# Altium schematic symbol library lattice.SCHLIB: 34 symbols (part 2 of 3)
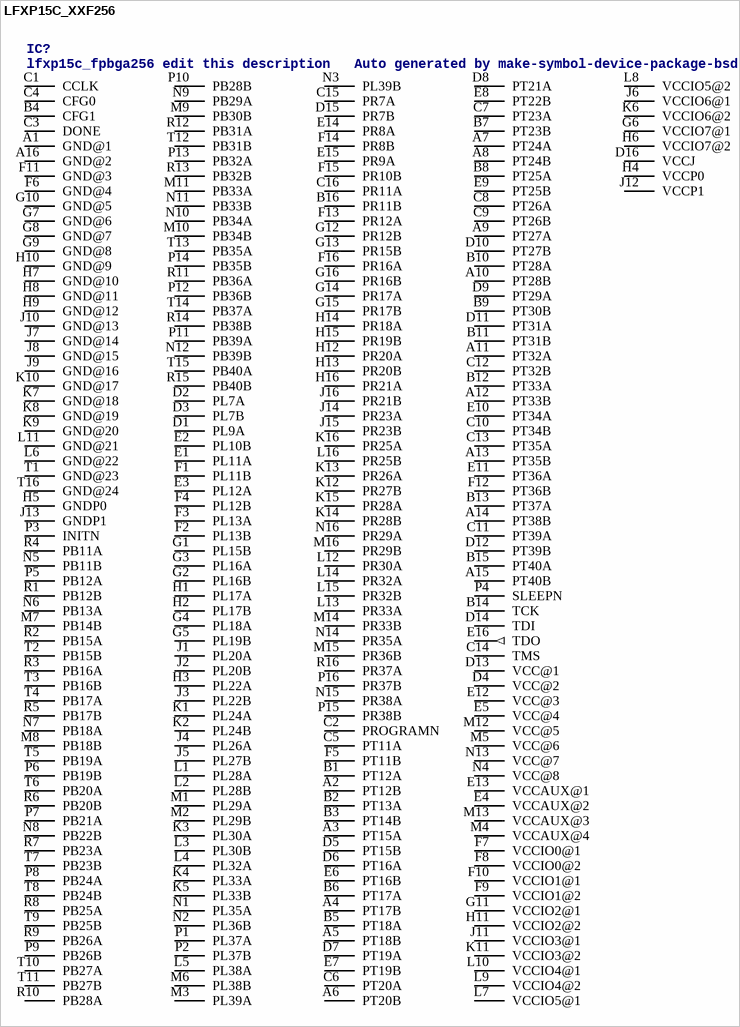
[diagram p23: symbol LFXP15C_XXF256]

## LFXP15C_XXF256
designator IC?, comment lfxp15c_fpbga256 edit this description   Auto generated by make-symbol-device-package-bsdl.ulp Rev. 20 Source: lfxp15c_fpbga256.bsm
OC_FARNELL: unknown; OC_NEWARK: unknown
footprint FPBGA_256
pins: A1 GND@1 (power), A2 PT12B, A3 PT15A, A4 PT17B, A5 PT18B, A6 PT20B, A7 PT24A, A8 PT24B, A9 PT27A, A10 PT28B, A11 PT32A, A12 PT33B, A13 PT35B, A14 PT38B, A15 PT40B, A16 GND@2 (power), B1 PT12A, B2 PT13A, B3 PT14B, B4 CFG1, B5 PT18A, B6 PT17A, B7 PT23B, B8 PT25A, B9 PT30B, B10 PT28A, B11 PT31B, B12 PT33A, B13 PT37A, B14 TCK, B15 PT40A, B16 PR11B, C1 CCLK, C2 PROGRAMN, C3 DONE, C4 CFG0, C5 PT11A, C6 PT20A, C7 PT23A, C8 PT26A, C9 PT26B, C10 PT34B, C11 PT39A, C12 PT32B, C13 PT35A, C14 TMS, C15 PR7A, C16 PR11A, D1 PL9A, D2 PL7A, D3 PL7B, D4 VCC@2 (power), D5 PT15B, D6 PT16A, D7 PT19A, D8 PT21A, D9 PT29A, D10 PT27B, D11 PT31A, D12 PT39B, D13 VCC@1 (power), D14 TDI, D15 PR7B, D16 VCCJ (power), E1 PL11A, E2 PL10B, E3 PL12A, E4 VCCAUX@2 (power), E5 VCC@4 (power), E6 PT16B, E7 PT19B, E8 PT22B, E9 PT25B, E10 PT34A, E11 PT36A, E12 VCC@3 (power), E13 VCCAUX@1 (power), E14 PR8A, E15 PR9A, E16 TDO (out), F1 PL11B, F2 PL13B, F3 PL13A, F4 PL12B, F5 PT11B, F6 GND@4 (power), F7 VCCIO0@1 (power), F8 VCCIO0@2 (power), F9 VCCIO1@2 (power), F10 VCCIO1@1 (power), F11 GND@3 (power), F12 PT36B, F13 PR12A, F14 PR8B, F15 PR10B, F16 PR16A, G1 PL15B, G2 PL16B, G3 PL16A, G4 PL18A, G5 PL19B, G6 VCCIO7@1 (power), G7 GND@6 (power), G8 GND@7 (power), G9 GND@8 (power), G10 GND@5 (power), G11 VCCIO2@1 (power), G12 PR12B, G13 PR15B, G14 PR17A, G15 PR17B, G16 PR16B, H1 PL17A, H2 PL17B, H3 PL22A, H4 VCCP0 (power), H5 GNDP0 (power), H6 VCCIO7@2 (power), H7 GND@10 (power), H8 GND@11 (power), H9 GND@12 (power), H10 GND@9 (power), H11 VCCIO2@2 (power), H12 PR20A, H13 PR20B, H14 PR18A, H15 PR19B, H16 PR21A, J1 PL20A, J2 PL20B, J3 PL22B, J4 PL26A, J5 PL27B, J6 VCCIO6@1 (power), J7 GND@14 (power), J8 GND@15 (power), J9 GND@16 (power), J10 GND@13 (power), J11 VCCIO3@1 (power), J12 VCCP1 (power), J13 GNDP1 (power), J14 PR23A, J15 PR23B, J16 PR21B, K1 PL24A, K2 PL24B, K3 PL30A, K4 PL33A, K5 PL33B, K6 VCCIO6@2 (power), K7 GND@18 (power), K8 GND@19 (power), K9 GND@20 (power), K10 GND@17 (power), K11 VCCIO3@2 (power), K12 PR27B, K13 PR26A, K14 PR28B, K15 PR28A, K16 PR25A, L1 PL28A, L2 PL28B, L3 PL30B, L4 PL32A, L5 PL38A, L6 GND@22 (power), L7 VCCIO5@1 (power), L8 VCCIO5@2 (power), L9 VCCIO4@2 (power), L10 VCCIO4@1 (power), L11 GND@21 (power), L12 PR30A, L13 PR33A, L14 PR32A, L15 PR32B, L16 PR25B, M1 PL29A, M2 PL29B, M3 PL39A, M4 VCCAUX@4 (power), M5 VCC@6 (power), M6 PL38B, M7 PB14B, M8 PB18B, M9 PB30B, M10 PB34B, M11 PB33A, M12 VCC@5 (power), M13 VCCAUX@3 (power), M14 PR33B, M15 PR36B, M16 PR29B, N1 PL35A, N2 PL36B, N3 PL39B, N4 VCC@8 (power), N5 PB11B, N6 PB13A, N7 PB18A, N8 PB22B, N9 PB29A, N10 PB34A, N11 PB33B, N12 PB39B, N13 VCC@7 (power), N14 PR35A, N15 PR38A, N16 PR29A, P1 PL37A, P2 PL37B, P3 INITN, P4 SLEEPN, P5 PB12A, P6 PB19B, P7 PB21A, P8 PB24A, P9 PB26B, P10 PB28B, P11 PB39A, P12 PB36B, P13 PB32A, P14 PB35B, P15 PR38B, P16 PR37B, R1 PB12B, R2 PB15A, R3 PB16A, R4 PB11A, R5 PB17B, R6 PB20B, R7 PB23A, R8 PB25A, R9 PB26A, R10 PB28A, R11 PB36A, R12 PB31A, R13 PB32B, R14 PB38B, R15 PB40B, R16 PR37A, T1 GND@23 (power), T2 PB15B, T3 PB16B, T4 PB17A, T5 PB19A, T6 PB20A, T7 PB23B, T8 PB24B, T9 PB25B, T10 PB27A, T11 PB27B, T12 PB31B, T13 PB35A, T14 PB37A, T15 PB40A, T16 GND@24 (power)

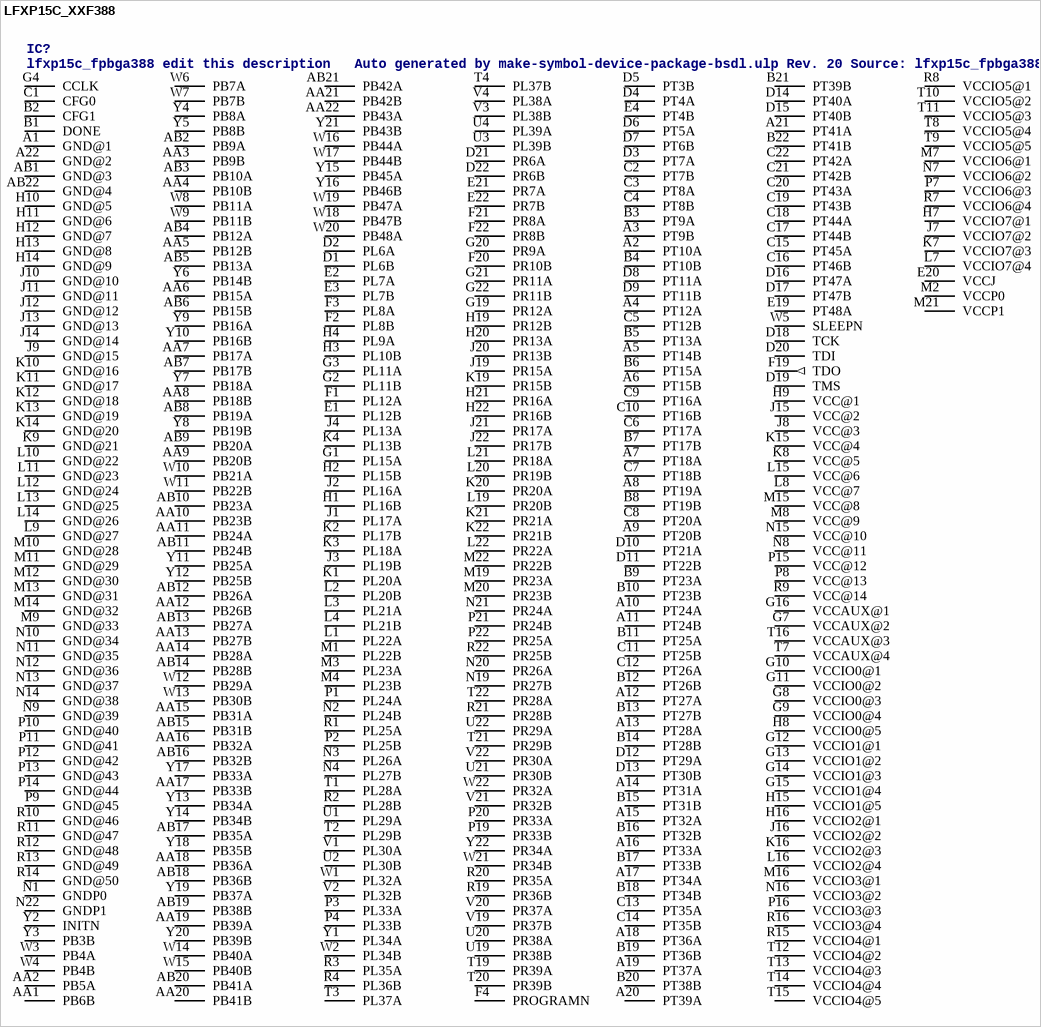
[diagram p13: symbol LFXP15C_XXF388]

## LFXP15C_XXF388
designator IC?, comment lfxp15c_fpbga388 edit this description   Auto generated by make-symbol-device-package-bsdl.ulp Rev. 20 Source: lfxp15c_fpbga388.bsm
OC_FARNELL: unknown; OC_NEWARK: unknown
footprint FPBGA388
pins: A1 GND@1 (power), A2 PT10A, A3 PT9B, A4 PT12A, A5 PT14B, A6 PT15B, A7 PT18A, A8 PT19A, A9 PT20B, A10 PT24A, A11 PT24B, A12 PT27A, A13 PT28A, A14 PT31A, A15 PT32A, A16 PT33A, A17 PT34A, A18 PT36A, A19 PT37A, A20 PT39A, A21 PT41A, A22 GND@2 (power), AA1 PB6B, AA2 PB5A, AA3 PB9B, AA4 PB10B, AA5 PB12B, AA6 PB15A, AA7 PB17A, AA8 PB18B, AA9 PB20B, AA10 PB23B, AA11 PB24A, AA12 PB26B, AA13 PB27B, AA14 PB28A, AA15 PB31A, AA16 PB32A, AA17 PB33B, AA18 PB36A, AA19 PB39A, AA20 PB41B, AA21 PB42B, AA22 PB43A, AB1 GND@3 (power), AB2 PB9A, AB3 PB10A, AB4 PB12A, AB5 PB13A, AB6 PB15B, AB7 PB17B, AB8 PB19A, AB9 PB20A, AB10 PB23A, AB11 PB24B, AB12 PB26A, AB13 PB27A, AB14 PB28B, AB15 PB31B, AB16 PB32B, AB17 PB35A, AB18 PB36B, AB19 PB38B, AB20 PB41A, AB21 PB42A, AB22 GND@4 (power), B1 DONE, B2 CFG1, B3 PT9A, B4 PT10B, B5 PT13A, B6 PT15A, B7 PT17B, B8 PT19B, B9 PT23A, B10 PT23B, B11 PT25A, B12 PT26B, B13 PT27B, B14 PT28B, B15 PT31B, B16 PT32B, B17 PT33B, B18 PT34B, B19 PT36B, B20 PT38B, B21 PT39B, B22 PT41B, C1 CFG0, C2 PT7B, C3 PT8A, C4 PT8B, C5 PT12B, C6 PT17A, C7 PT18B, C8 PT20A, C9 PT16A, C10 PT16B, C11 PT25B, C12 PT26A, C13 PT35A, C14 PT35B, C15 PT45A, C16 PT46B, C17 PT44B, C18 PT44A, C19 PT43B, C20 PT43A, C21 PT42B, C22 PT42A, D1 PL6B, D2 PL6A, D3 PT7A, D4 PT4A, D5 PT3B, D6 PT5A, D7 PT6B, D8 PT11A, D9 PT11B, D10 PT21A, D11 PT22B, D12 PT29A, D13 PT30B, D14 PT40A, D15 PT40B, D16 PT47A, D17 PT47B, D18 TCK, D19 TMS, D20 TDI, D21 PR6A, D22 PR6B, E1 PL12B, E2 PL7A, E3 PL7B, E4 PT4B, E19 PT48A, E20 VCCJ (power), E21 PR7A, E22 PR7B, F1 PL12A, F2 PL8B, F3 PL8A, F4 PROGRAMN, F19 TDO (out), F20 PR10B, F21 PR8A, F22 PR8B, G1 PL15A, G2 PL11B, G3 PL11A, G4 CCLK, G7 VCCAUX@2 (power), G8 VCCIO0@3 (power), G9 VCCIO0@4 (power), G10 VCCIO0@1 (power), G11 VCCIO0@2 (power), G12 VCCIO1@1 (power), G13 VCCIO1@2 (power), G14 VCCIO1@3 (power), G15 VCCIO1@4 (power), G16 VCCAUX@1 (power), G19 PR12A, G20 PR9A, G21 PR11A, G22 PR11B, H1 PL16B, H2 PL15B, H3 PL10B, H4 PL9A, H7 VCCIO7@1 (power), H8 VCCIO0@5 (power), H9 VCC@1 (power), H10 GND@5 (power), H11 GND@6 (power), H12 GND@7 (power), H13 GND@8 (power), H14 GND@9 (power), H15 VCCIO1@5 (power), H16 VCCIO2@1 (power), H19 PR12B, H20 PR13A, H21 PR16A, H22 PR16B, J1 PL17A, J2 PL16A, J3 PL19B, J4 PL13A, J7 VCCIO7@2 (power), J8 VCC@3 (power), J9 GND@15 (power), J10 GND@10 (power), J11 GND@11 (power), J12 GND@12 (power), J13 GND@13 (power), J14 GND@14 (power), J15 VCC@2 (power), J16 VCCIO2@2 (power), J19 PR15A, J20 PR13B, J21 PR17A, J22 PR17B, K1 PL20A, K2 PL17B, K3 PL18A, K4 PL13B, K7 VCCIO7@3 (power), K8 VCC@5 (power), K9 GND@21 (power), K10 GND@16 (power), K11 GND@17 (power), K12 GND@18 (power), K13 GND@19 (power), K14 GND@20 (power), K15 VCC@4 (power), K16 VCCIO2@3 (power), K19 PR15B, K20 PR20A, K21 PR21A, K22 PR21B, L1 PL22A, L2 PL20B, L3 PL21A, L4 PL21B, L7 VCCIO7@4 (power), L8 VCC@7 (power), L9 GND@27 (power), L10 GND@22 (power), L11 GND@23 (power), L12 GND@24 (power), L13 GND@25 (power), L14 GND@26 (power), L15 VCC@6 (power), L16 VCCIO2@4 (power), L19 PR20B, L20 PR19B, L21 PR18A, L22 PR22A, M1 PL22B, M2 VCCP0 (power), M3 PL23A, M4 PL23B, M7 VCCIO6@1 (power), M8 VCC@9 (power), M9 GND@33 (power), M10 GND@28 (power), M11 GND@29 (power), M12 GND@30 (power), M13 GND@31 (power), M14 GND@32 (power), M15 VCC@8 (power), M16 VCCIO3@1 (power), M19 PR23A, M20 PR23B, M21 VCCP1 (power), M22 PR22B, N1 GNDP0 (power), N2 PL24B, N3 PL26A, N4 PL27B, N7 VCCIO6@2 (power), N8 VCC@11 (power), N9 GND@39 (power), N10 GND@34 (power), N11 GND@35 (power), N12 GND@36 (power), N13 GND@37 (power), N14 GND@38 (power), N15 VCC@10 (power), N16 VCCIO3@2 (power), N19 PR27B, N20 PR26A, N21 PR24A, N22 GNDP1 (power), P1 PL24A, P2 PL25B, P3 PL33A, P4 PL33B, P7 VCCIO6@3 (power), P8 VCC@13 (power), P9 GND@45 (power), P10 GND@40 (power), P11 GND@41 (power), P12 GND@42 (power), P13 GND@43 (power), P14 GND@44 (power), P15 VCC@12 (power), P16 VCCIO3@3 (power), P19 PR33B, P20 PR33A, P21 PR24B, P22 PR25A, R1 PL25A, R2 PL28B, R3 PL35A, R4 PL36B, R7 VCCIO6@4 (power), R8 VCCIO5@1 (power), R9 VCC@14 (power), R10 GND@46 (power), R11 GND@47 (power), R12 GND@48 (power), R13 GND@49 (power), R14 GND@50 (power), R15 VCCIO4@1 (power), R16 VCCIO3@4 (power), R19 PR36B, R20 PR35A, R21 PR28B, R22 PR25B, T1 PL28A, T2 PL29B, T3 PL37A, T4 PL37B, T7 VCCAUX@4 (power), T8 VCCIO5@4 (power), T9 VCCIO5@5 (power), T10 VCCIO5@2 (power), T11 VCCIO5@3 (power), T12 VCCIO4@2 (power), T13 VCCIO4@3 (power), T14 VCCIO4@4 (power), T15 VCCIO4@5 (power), T16 VCCAUX@3 (power), T19 PR39A, T20 PR39B, T21 PR29B, T22 PR28A, U1 PL29A, U2 PL30B, U3 PL39B, U4 PL39A, U19 PR38B, U20 PR38A, U21 PR30B, U22 PR29A, V1 PL30A, V2 PL32B, V3 PL38B, V4 PL38A, V19 PR37B, V20 PR37A, V21 PR32B, V22 PR30A, W1 PL32A, W2 PL34B, W3 PB4A, W4 PB4B, W5 SLEEPN, W6 PB7A, W7 PB7B, W8 PB11A, W9 PB11B, W10 PB21A, W11 PB22B, W12 PB29A, W13 PB30B, W14 PB40A, W15 PB40B, W16 PB44A, W17 PB44B, W18 PB47B, W19 PB47A, W20 PB48A, W21 PR34B, W22 PR32A, Y1 PL34A, Y2 INITN, Y3 PB3B, Y4 PB8A, Y5 PB8B, Y6 PB14B, Y7 PB18A, Y8 PB19B, Y9 PB16A, Y10 PB16B, Y11 PB25A, Y12 PB25B, Y13 PB34A, Y14 PB34B, Y15 PB45A, Y16 PB46B, Y17 PB33A, Y18 PB35B, Y19 PB37A, Y20 PB39B, Y21 PB43B, Y22 PR34A

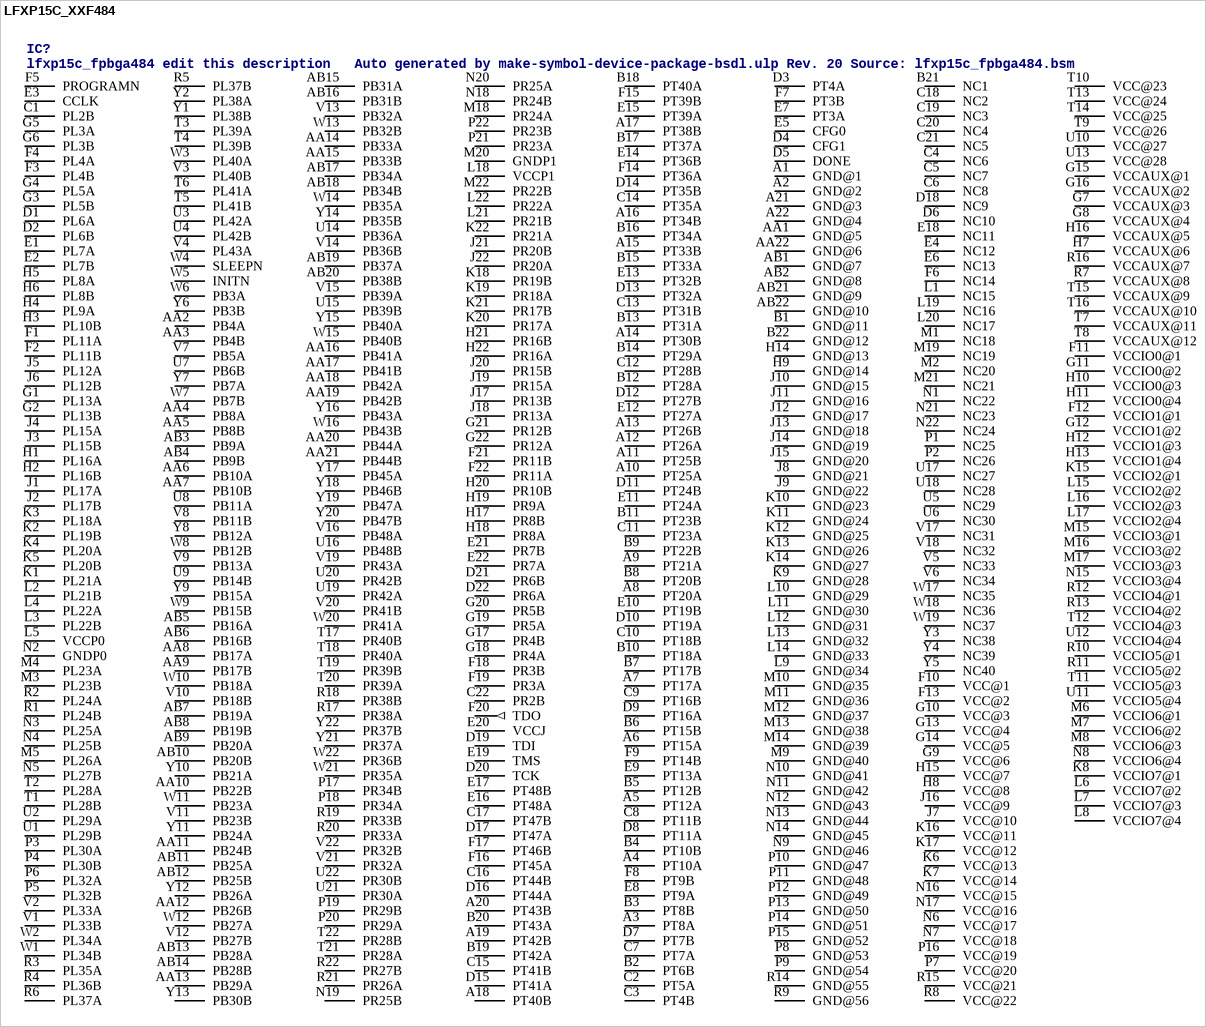
[diagram p14: symbol LFXP15C_XXF484]

## LFXP15C_XXF484
designator IC?, comment lfxp15c_fpbga484 edit this description   Auto generated by make-symbol-device-package-bsdl.ulp Rev. 20 Source: lfxp15c_fpbga484.bsm
OC_FARNELL: unknown; OC_NEWARK: unknown
footprint FPBGA_484
pins: A1 GND@1 (power), A2 GND@2 (power), A3 PT8A, A4 PT10A, A5 PT12A, A6 PT15A, A7 PT17A, A8 PT20A, A9 PT21A, A10 PT25A, A11 PT25B, A12 PT26A, A13 PT26B, A14 PT30B, A15 PT33B, A16 PT34B, A17 PT38B, A18 PT40B, A19 PT42B, A20 PT43B, A21 GND@3 (power), A22 GND@4 (power), AA1 GND@5 (power), AA2 PB4A, AA3 PB4B, AA4 PB8A, AA5 PB8B, AA6 PB10A, AA7 PB10B, AA8 PB17A, AA9 PB17B, AA10 PB22B, AA11 PB24B, AA12 PB26B, AA13 PB29A, AA14 PB33A, AA15 PB33B, AA16 PB41A, AA17 PB41B, AA18 PB42A, AA19 PB42B, AA20 PB44A, AA21 PB44B, AA22 GND@6 (power), AB1 GND@7 (power), AB2 GND@8 (power), AB3 PB9A, AB4 PB9B, AB5 PB16A, AB6 PB16B, AB7 PB19A, AB8 PB19B, AB9 PB20A, AB10 PB20B, AB11 PB25A, AB12 PB25B, AB13 PB28A, AB14 PB28B, AB15 PB31A, AB16 PB31B, AB17 PB34A, AB18 PB34B, AB19 PB37A, AB20 PB38B, AB21 GND@9 (power), AB22 GND@10 (power), B1 GND@11 (power), B2 PT6B, B3 PT8B, B4 PT10B, B5 PT12B, B6 PT15B, B7 PT17B, B8 PT20B, B9 PT22B, B10 PT18A, B11 PT23B, B12 PT28A, B13 PT31A, B14 PT29A, B15 PT33A, B16 PT34A, B17 PT37A, B18 PT40A, B19 PT42A, B20 PT43A, B21 NC1, B22 GND@12 (power), C1 PL2B, C2 PT5A, C3 PT4B, C4 NC6, C5 NC7, C6 NC8, C7 PT7A, C8 PT11B, C9 PT16B, C10 PT18B, C11 PT23A, C12 PT28B, C13 PT31B, C14 PT35A, C15 PT41B, C16 PT44B, C17 PT47B, C18 NC2, C19 NC3, C20 NC4, C21 NC5, C22 PR2B, D1 PL6A, D2 PL6B, D3 PT4A, D4 CFG1, D5 DONE, D6 NC10, D7 PT7B, D8 PT11A, D9 PT16A, D10 PT19A, D11 PT24B, D12 PT27B, D13 PT32A, D14 PT35B, D15 PT41A, D16 PT44A, D17 PT47A, D18 NC9, D19 TDI, D20 TCK, D21 PR6B, D22 PR6A, E1 PL7A, E2 PL7B, E3 CCLK, E4 NC12, E5 CFG0, E6 NC13, E7 PT3A, E8 PT9A, E9 PT13A, E10 PT19B, E11 PT24A, E12 PT27A, E13 PT32B, E14 PT36B, E15 PT39A, E16 PT48A, E17 PT48B, E18 NC11, E19 TMS, E20 VCCJ (power), E21 PR7B, E22 PR7A, F1 PL11A, F2 PL11B, F3 PL4B, F4 PL4A, F5 PROGRAMN, F6 NC14, F7 PT3B, F8 PT9B, F9 PT14B, F10 VCC@1 (power), F11 VCCIO0@1 (power), F12 VCCIO1@1 (power), F13 VCC@2 (power), F14 PT36A, F15 PT39B, F16 PT45A, F17 PT46B, F18 PR3B, F19 PR3A, F20 TDO (out), F21 PR11B, F22 PR11A, G1 PL13A, G2 PL13B, G3 PL5B, G4 PL5A, G5 PL3A, G6 PL3B, G7 VCCAUX@3 (power), G8 VCCAUX@4 (power), G9 VCC@6 (power), G10 VCC@3 (power), G11 VCCIO0@2 (power), G12 VCCIO1@2 (power), G13 VCC@4 (power), G14 VCC@5 (power), G15 VCCAUX@1 (power), G16 VCCAUX@2 (power), G17 PR4B, G18 PR4A, G19 PR5A, G20 PR5B, G21 PR12B, G22 PR12A, H1 PL16A, H2 PL16B, H3 PL10B, H4 PL9A, H5 PL8A, H6 PL8B, H7 VCCAUX@6 (power), H8 VCC@8 (power), H9 GND@14 (power), H10 VCCIO0@3 (power), H11 VCCIO0@4 (power), H12 VCCIO1@3 (power), H13 VCCIO1@4 (power), H14 GND@13 (power), H15 VCC@7 (power), H16 VCCAUX@5 (power), H17 PR8B, H18 PR8A, H19 PR9A, H20 PR10B, H21 PR16B, H22 PR16A, J1 PL17A, J2 PL17B, J3 PL15B, J4 PL15A, J5 PL12A, J6 PL12B, J7 VCC@10 (power), J8 GND@21 (power), J9 GND@22 (power), J10 GND@15 (power), J11 GND@16 (power), J12 GND@17 (power), J13 GND@18 (power), J14 GND@19 (power), J15 GND@20 (power), J16 VCC@9 (power), J17 PR13B, J18 PR13A, J19 PR15A, J20 PR15B, J21 PR20B, J22 PR20A, K1 PL21A, K2 PL19B, K3 PL18A, K4 PL20A, K5 PL20B, K6 VCC@13 (power), K7 VCC@14 (power), K8 VCCIO7@1 (power), K9 GND@28 (power), K10 GND@23 (power), K11 GND@24 (power), K12 GND@25 (power), K13 GND@26 (power), K14 GND@27 (power), K15 VCCIO2@1 (power), K16 VCC@11 (power), K17 VCC@12 (power), K18 PR19B, K19 PR18A, K20 PR17A, K21 PR17B, K22 PR21A, L1 NC15, L2 PL21B, L3 PL22B, L4 PL22A, L5 VCCP0 (power), L6 VCCIO7@2 (power), L7 VCCIO7@3 (power), L8 VCCIO7@4 (power), L9 GND@34 (power), L10 GND@29 (power), L11 GND@30 (power), L12 GND@31 (power), L13 GND@32 (power), L14 GND@33 (power), L15 VCCIO2@2 (power), L16 VCCIO2@3 (power), L17 VCCIO2@4 (power), L18 VCCP1 (power), L19 NC16, L20 NC17, L21 PR21B, L22 PR22A, M1 NC18, M2 NC20, M3 PL23B, M4 PL23A, M5 PL26A, M6 VCCIO6@1 (power), M7 VCCIO6@2 (power), M8 VCCIO6@3 (power), M9 GND@40 (power), M10 GND@35 (power), M11 GND@36 (power), M12 GND@37 (power), M13 GND@38 (power), M14 GND@39 (power), M15 VCCIO3@1 (power), M16 VCCIO3@2 (power), M17 VCCIO3@3 (power), M18 PR24A, M19 NC19, M20 GNDP1 (power), M21 NC21, M22 PR22B, N1 NC22, N2 GNDP0 (power), N3 PL25A, N4 PL25B, N5 PL27B, N6 VCC@17 (power), N7 VCC@18 (power), N8 VCCIO6@4 (power), N9 GND@46 (power), N10 GND@41 (power), N11 GND@42 (power), N12 GND@43 (power), N13 GND@44 (power), N14 GND@45 (power), N15 VCCIO3@4 (power), N16 VCC@15 (power), N17 VCC@16 (power), N18 PR24B, N19 PR25B, N20 PR25A, N21 NC23, N22 NC24, P1 NC25, P2 NC26, P3 PL30A, P4 PL30B, P5 PL32B, P6 PL32A, P7 VCC@20 (power), P8 GND@53 (power), P9 GND@54 (power), P10 GND@47 (power), P11 GND@48 (power), P12 GND@49 (power), P13 GND@50 (power), P14 GND@51 (power), P15 GND@52 (power), P16 VCC@19 (power), P17 PR34B, P18 PR34A, P19 PR29B, P20 PR29A, P21 PR23A, P22 PR23B, R1 PL24B, R2 PL24A, R3 PL35A, R4 PL36B, R5 PL37B, R6 PL37A, R7 VCCAUX@8 (power), R8 VCC@22 (power), R9 GND@56 (power), R10 VCCIO5@1 (power), R11 VCCIO5@2 (power), R12 VCCIO4@1 (power), R13 VCCIO4@2 (power), R14 GND@55 (power), R15 VCC@21 (power), R16 VCCAUX@7 (power), R17 PR38A, R18 PR38B, R19 PR33B, R20 PR33A, R21 PR26A, R22 PR27B, T1 PL28B, T2 PL28A, T3 PL39A, T4 PL39B, T5 PL41B, T6 PL41A, T7 VCCAUX@11 (power), T8 VCCAUX@12 (power), T9 VCC@26 (power), T10 VCC@23 (power), T11 VCCIO5@3 (power), T12 VCCIO4@3 (power), T13 VCC@24 (power), T14 VCC@25 (power), T15 VCCAUX@9 (power), T16 VCCAUX@10 (power), T17 PR40B, T18 PR40A, T19 PR39B, T20 PR39A, T21 PR28A, T22 PR28B, U1 PL29B, U2 PL29A, U3 PL42A, U4 PL42B, U5 NC29, U6 NC30, U7 PB6B, U8 PB11A, U9 PB14B, U10 VCC@27 (power), U11 VCCIO5@4 (power), U12 VCCIO4@4 (power), U13 VCC@28 (power), U14 PB36A, U15 PB39B, U16 PB48B, U17 NC27, U18 NC28, U19 PR42A, U20 PR42B, U21 PR30A, U22 PR30B, V1 PL33B, V2 PL33A, V3 PL40B, V4 PL43A, V5 NC33, V6 NC34, V7 PB5A, V8 PB11B, V9 PB13A, V10 PB18B, V11 PB23B, V12 PB27B, V13 PB32A, V14 PB36B, V15 PB39A, V16 PB48A, V17 NC31, V18 NC32, V19 PR43A, V20 PR41B, V21 PR32A, V22 PR32B, W1 PL34B, W2 PL34A, W3 PL40A, W4 SLEEPN, W5 INITN, W6 PB3A, W7 PB7B, W8 PB12B, W9 PB15B, W10 PB18A, W11 PB23A, W12 PB27A, W13 PB32B, W14 PB35A, W15 PB40B, W16 PB43B, W17 NC35, W18 NC36, W19 NC37, W20 PR41A, W21 PR35A, W22 PR36B, Y1 PL38B, Y2 PL38A, Y3 NC38, Y4 NC39, Y5 NC40, Y6 PB3B, Y7 PB7A, Y8 PB12A, Y9 PB15A, Y10 PB21A, Y11 PB24A, Y12 PB26A, Y13 PB30B, Y14 PB35B, Y15 PB40A, Y16 PB43A, Y17 PB45A, Y18 PB46B, Y19 PB47A, Y20 PB47B, Y21 PR37A, Y22 PR37B

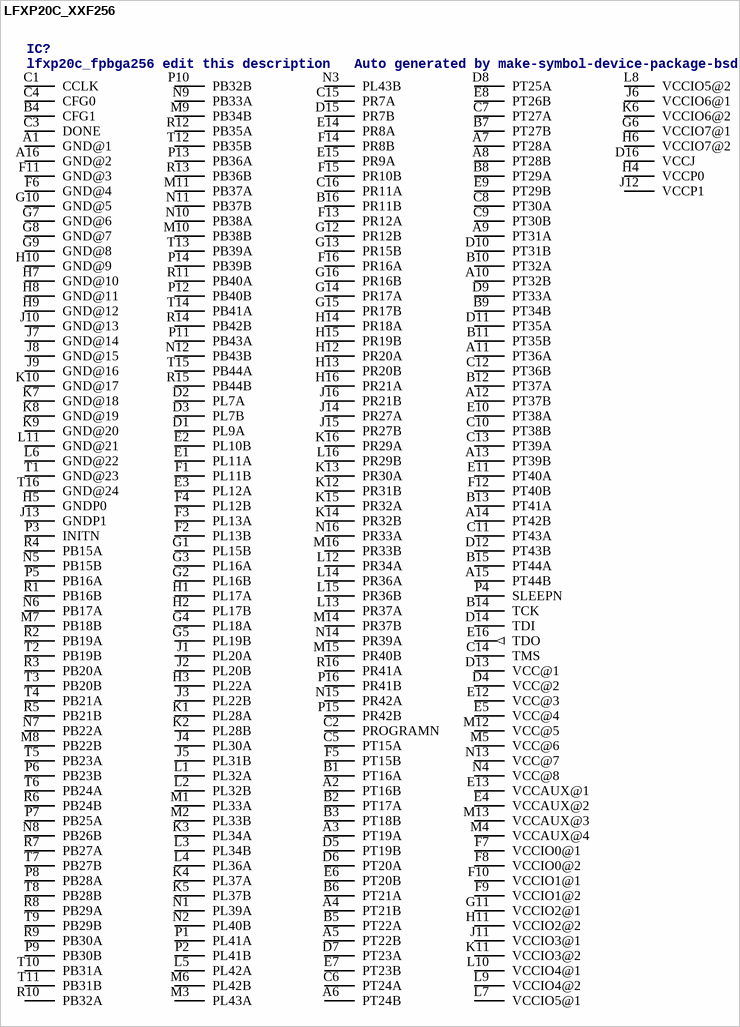
[diagram p15: symbol LFXP20C_XXF256]

## LFXP20C_XXF256
designator IC?, comment lfxp20c_fpbga256 edit this description   Auto generated by make-symbol-device-package-bsdl.ulp Rev. 20 Source: lfxp20c_fpbga256.bsm
OC_FARNELL: unknown; OC_NEWARK: unknown
footprint FPBGA_256
pins: A1 GND@1 (power), A2 PT16B, A3 PT19A, A4 PT21B, A5 PT22B, A6 PT24B, A7 PT28A, A8 PT28B, A9 PT31A, A10 PT32B, A11 PT36A, A12 PT37B, A13 PT39B, A14 PT42B, A15 PT44B, A16 GND@2 (power), B1 PT16A, B2 PT17A, B3 PT18B, B4 CFG1, B5 PT22A, B6 PT21A, B7 PT27B, B8 PT29A, B9 PT34B, B10 PT32A, B11 PT35B, B12 PT37A, B13 PT41A, B14 TCK, B15 PT44A, B16 PR11B, C1 CCLK, C2 PROGRAMN, C3 DONE, C4 CFG0, C5 PT15A, C6 PT24A, C7 PT27A, C8 PT30A, C9 PT30B, C10 PT38B, C11 PT43A, C12 PT36B, C13 PT39A, C14 TMS, C15 PR7A, C16 PR11A, D1 PL9A, D2 PL7A, D3 PL7B, D4 VCC@2 (power), D5 PT19B, D6 PT20A, D7 PT23A, D8 PT25A, D9 PT33A, D10 PT31B, D11 PT35A, D12 PT43B, D13 VCC@1 (power), D14 TDI, D15 PR7B, D16 VCCJ (power), E1 PL11A, E2 PL10B, E3 PL12A, E4 VCCAUX@2 (power), E5 VCC@4 (power), E6 PT20B, E7 PT23B, E8 PT26B, E9 PT29B, E10 PT38A, E11 PT40A, E12 VCC@3 (power), E13 VCCAUX@1 (power), E14 PR8A, E15 PR9A, E16 TDO (out), F1 PL11B, F2 PL13B, F3 PL13A, F4 PL12B, F5 PT15B, F6 GND@4 (power), F7 VCCIO0@1 (power), F8 VCCIO0@2 (power), F9 VCCIO1@2 (power), F10 VCCIO1@1 (power), F11 GND@3 (power), F12 PT40B, F13 PR12A, F14 PR8B, F15 PR10B, F16 PR16A, G1 PL15B, G2 PL16B, G3 PL16A, G4 PL18A, G5 PL19B, G6 VCCIO7@1 (power), G7 GND@6 (power), G8 GND@7 (power), G9 GND@8 (power), G10 GND@5 (power), G11 VCCIO2@1 (power), G12 PR12B, G13 PR15B, G14 PR17A, G15 PR17B, G16 PR16B, H1 PL17A, H2 PL17B, H3 PL22A, H4 VCCP0 (power), H5 GNDP0 (power), H6 VCCIO7@2 (power), H7 GND@10 (power), H8 GND@11 (power), H9 GND@12 (power), H10 GND@9 (power), H11 VCCIO2@2 (power), H12 PR20A, H13 PR20B, H14 PR18A, H15 PR19B, H16 PR21A, J1 PL20A, J2 PL20B, J3 PL22B, J4 PL30A, J5 PL31B, J6 VCCIO6@1 (power), J7 GND@14 (power), J8 GND@15 (power), J9 GND@16 (power), J10 GND@13 (power), J11 VCCIO3@1 (power), J12 VCCP1 (power), J13 GNDP1 (power), J14 PR27A, J15 PR27B, J16 PR21B, K1 PL28A, K2 PL28B, K3 PL34A, K4 PL37A, K5 PL37B, K6 VCCIO6@2 (power), K7 GND@18 (power), K8 GND@19 (power), K9 GND@20 (power), K10 GND@17 (power), K11 VCCIO3@2 (power), K12 PR31B, K13 PR30A, K14 PR32B, K15 PR32A, K16 PR29A, L1 PL32A, L2 PL32B, L3 PL34B, L4 PL36A, L5 PL42A, L6 GND@22 (power), L7 VCCIO5@1 (power), L8 VCCIO5@2 (power), L9 VCCIO4@2 (power), L10 VCCIO4@1 (power), L11 GND@21 (power), L12 PR34A, L13 PR37A, L14 PR36A, L15 PR36B, L16 PR29B, M1 PL33A, M2 PL33B, M3 PL43A, M4 VCCAUX@4 (power), M5 VCC@6 (power), M6 PL42B, M7 PB18B, M8 PB22B, M9 PB34B, M10 PB38B, M11 PB37A, M12 VCC@5 (power), M13 VCCAUX@3 (power), M14 PR37B, M15 PR40B, M16 PR33B, N1 PL39A, N2 PL40B, N3 PL43B, N4 VCC@8 (power), N5 PB15B, N6 PB17A, N7 PB22A, N8 PB26B, N9 PB33A, N10 PB38A, N11 PB37B, N12 PB43B, N13 VCC@7 (power), N14 PR39A, N15 PR42A, N16 PR33A, P1 PL41A, P2 PL41B, P3 INITN, P4 SLEEPN, P5 PB16A, P6 PB23B, P7 PB25A, P8 PB28A, P9 PB30B, P10 PB32B, P11 PB43A, P12 PB40B, P13 PB36A, P14 PB39B, P15 PR42B, P16 PR41B, R1 PB16B, R2 PB19A, R3 PB20A, R4 PB15A, R5 PB21B, R6 PB24B, R7 PB27A, R8 PB29A, R9 PB30A, R10 PB32A, R11 PB40A, R12 PB35A, R13 PB36B, R14 PB42B, R15 PB44B, R16 PR41A, T1 GND@23 (power), T2 PB19B, T3 PB20B, T4 PB21A, T5 PB23A, T6 PB24A, T7 PB27B, T8 PB28B, T9 PB29B, T10 PB31A, T11 PB31B, T12 PB35B, T13 PB39A, T14 PB41A, T15 PB44A, T16 GND@24 (power)

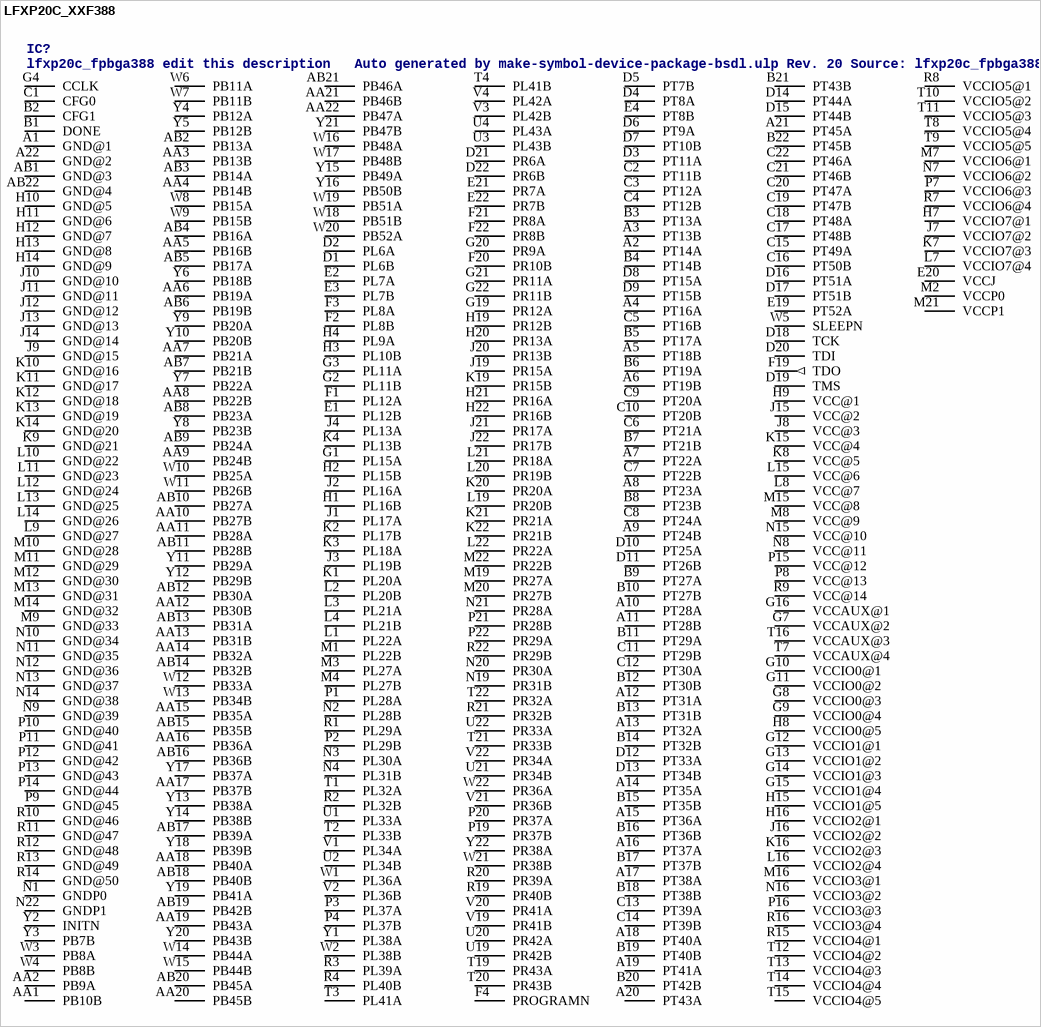
[diagram p16: symbol LFXP20C_XXF388]

## LFXP20C_XXF388
designator IC?, comment lfxp20c_fpbga388 edit this description   Auto generated by make-symbol-device-package-bsdl.ulp Rev. 20 Source: lfxp20c_fpbga388.bsm
OC_FARNELL: unknown; OC_NEWARK: unknown
footprint FPBGA388
pins: A1 GND@1 (power), A2 PT14A, A3 PT13B, A4 PT16A, A5 PT18B, A6 PT19B, A7 PT22A, A8 PT23A, A9 PT24B, A10 PT28A, A11 PT28B, A12 PT31A, A13 PT32A, A14 PT35A, A15 PT36A, A16 PT37A, A17 PT38A, A18 PT40A, A19 PT41A, A20 PT43A, A21 PT45A, A22 GND@2 (power), AA1 PB10B, AA2 PB9A, AA3 PB13B, AA4 PB14B, AA5 PB16B, AA6 PB19A, AA7 PB21A, AA8 PB22B, AA9 PB24B, AA10 PB27B, AA11 PB28A, AA12 PB30B, AA13 PB31B, AA14 PB32A, AA15 PB35A, AA16 PB36A, AA17 PB37B, AA18 PB40A, AA19 PB43A, AA20 PB45B, AA21 PB46B, AA22 PB47A, AB1 GND@3 (power), AB2 PB13A, AB3 PB14A, AB4 PB16A, AB5 PB17A, AB6 PB19B, AB7 PB21B, AB8 PB23A, AB9 PB24A, AB10 PB27A, AB11 PB28B, AB12 PB30A, AB13 PB31A, AB14 PB32B, AB15 PB35B, AB16 PB36B, AB17 PB39A, AB18 PB40B, AB19 PB42B, AB20 PB45A, AB21 PB46A, AB22 GND@4 (power), B1 DONE, B2 CFG1, B3 PT13A, B4 PT14B, B5 PT17A, B6 PT19A, B7 PT21B, B8 PT23B, B9 PT27A, B10 PT27B, B11 PT29A, B12 PT30B, B13 PT31B, B14 PT32B, B15 PT35B, B16 PT36B, B17 PT37B, B18 PT38B, B19 PT40B, B20 PT42B, B21 PT43B, B22 PT45B, C1 CFG0, C2 PT11B, C3 PT12A, C4 PT12B, C5 PT16B, C6 PT21A, C7 PT22B, C8 PT24A, C9 PT20A, C10 PT20B, C11 PT29B, C12 PT30A, C13 PT39A, C14 PT39B, C15 PT49A, C16 PT50B, C17 PT48B, C18 PT48A, C19 PT47B, C20 PT47A, C21 PT46B, C22 PT46A, D1 PL6B, D2 PL6A, D3 PT11A, D4 PT8A, D5 PT7B, D6 PT9A, D7 PT10B, D8 PT15A, D9 PT15B, D10 PT25A, D11 PT26B, D12 PT33A, D13 PT34B, D14 PT44A, D15 PT44B, D16 PT51A, D17 PT51B, D18 TCK, D19 TMS, D20 TDI, D21 PR6A, D22 PR6B, E1 PL12B, E2 PL7A, E3 PL7B, E4 PT8B, E19 PT52A, E20 VCCJ (power), E21 PR7A, E22 PR7B, F1 PL12A, F2 PL8B, F3 PL8A, F4 PROGRAMN, F19 TDO (out), F20 PR10B, F21 PR8A, F22 PR8B, G1 PL15A, G2 PL11B, G3 PL11A, G4 CCLK, G7 VCCAUX@2 (power), G8 VCCIO0@3 (power), G9 VCCIO0@4 (power), G10 VCCIO0@1 (power), G11 VCCIO0@2 (power), G12 VCCIO1@1 (power), G13 VCCIO1@2 (power), G14 VCCIO1@3 (power), G15 VCCIO1@4 (power), G16 VCCAUX@1 (power), G19 PR12A, G20 PR9A, G21 PR11A, G22 PR11B, H1 PL16B, H2 PL15B, H3 PL10B, H4 PL9A, H7 VCCIO7@1 (power), H8 VCCIO0@5 (power), H9 VCC@1 (power), H10 GND@5 (power), H11 GND@6 (power), H12 GND@7 (power), H13 GND@8 (power), H14 GND@9 (power), H15 VCCIO1@5 (power), H16 VCCIO2@1 (power), H19 PR12B, H20 PR13A, H21 PR16A, H22 PR16B, J1 PL17A, J2 PL16A, J3 PL19B, J4 PL13A, J7 VCCIO7@2 (power), J8 VCC@3 (power), J9 GND@15 (power), J10 GND@10 (power), J11 GND@11 (power), J12 GND@12 (power), J13 GND@13 (power), J14 GND@14 (power), J15 VCC@2 (power), J16 VCCIO2@2 (power), J19 PR15A, J20 PR13B, J21 PR17A, J22 PR17B, K1 PL20A, K2 PL17B, K3 PL18A, K4 PL13B, K7 VCCIO7@3 (power), K8 VCC@5 (power), K9 GND@21 (power), K10 GND@16 (power), K11 GND@17 (power), K12 GND@18 (power), K13 GND@19 (power), K14 GND@20 (power), K15 VCC@4 (power), K16 VCCIO2@3 (power), K19 PR15B, K20 PR20A, K21 PR21A, K22 PR21B, L1 PL22A, L2 PL20B, L3 PL21A, L4 PL21B, L7 VCCIO7@4 (power), L8 VCC@7 (power), L9 GND@27 (power), L10 GND@22 (power), L11 GND@23 (power), L12 GND@24 (power), L13 GND@25 (power), L14 GND@26 (power), L15 VCC@6 (power), L16 VCCIO2@4 (power), L19 PR20B, L20 PR19B, L21 PR18A, L22 PR22A, M1 PL22B, M2 VCCP0 (power), M3 PL27A, M4 PL27B, M7 VCCIO6@1 (power), M8 VCC@9 (power), M9 GND@33 (power), M10 GND@28 (power), M11 GND@29 (power), M12 GND@30 (power), M13 GND@31 (power), M14 GND@32 (power), M15 VCC@8 (power), M16 VCCIO3@1 (power), M19 PR27A, M20 PR27B, M21 VCCP1 (power), M22 PR22B, N1 GNDP0 (power), N2 PL28B, N3 PL30A, N4 PL31B, N7 VCCIO6@2 (power), N8 VCC@11 (power), N9 GND@39 (power), N10 GND@34 (power), N11 GND@35 (power), N12 GND@36 (power), N13 GND@37 (power), N14 GND@38 (power), N15 VCC@10 (power), N16 VCCIO3@2 (power), N19 PR31B, N20 PR30A, N21 PR28A, N22 GNDP1 (power), P1 PL28A, P2 PL29B, P3 PL37A, P4 PL37B, P7 VCCIO6@3 (power), P8 VCC@13 (power), P9 GND@45 (power), P10 GND@40 (power), P11 GND@41 (power), P12 GND@42 (power), P13 GND@43 (power), P14 GND@44 (power), P15 VCC@12 (power), P16 VCCIO3@3 (power), P19 PR37B, P20 PR37A, P21 PR28B, P22 PR29A, R1 PL29A, R2 PL32B, R3 PL39A, R4 PL40B, R7 VCCIO6@4 (power), R8 VCCIO5@1 (power), R9 VCC@14 (power), R10 GND@46 (power), R11 GND@47 (power), R12 GND@48 (power), R13 GND@49 (power), R14 GND@50 (power), R15 VCCIO4@1 (power), R16 VCCIO3@4 (power), R19 PR40B, R20 PR39A, R21 PR32B, R22 PR29B, T1 PL32A, T2 PL33B, T3 PL41A, T4 PL41B, T7 VCCAUX@4 (power), T8 VCCIO5@4 (power), T9 VCCIO5@5 (power), T10 VCCIO5@2 (power), T11 VCCIO5@3 (power), T12 VCCIO4@2 (power), T13 VCCIO4@3 (power), T14 VCCIO4@4 (power), T15 VCCIO4@5 (power), T16 VCCAUX@3 (power), T19 PR43A, T20 PR43B, T21 PR33B, T22 PR32A, U1 PL33A, U2 PL34B, U3 PL43B, U4 PL43A, U19 PR42B, U20 PR42A, U21 PR34B, U22 PR33A, V1 PL34A, V2 PL36B, V3 PL42B, V4 PL42A, V19 PR41B, V20 PR41A, V21 PR36B, V22 PR34A, W1 PL36A, W2 PL38B, W3 PB8A, W4 PB8B, W5 SLEEPN, W6 PB11A, W7 PB11B, W8 PB15A, W9 PB15B, W10 PB25A, W11 PB26B, W12 PB33A, W13 PB34B, W14 PB44A, W15 PB44B, W16 PB48A, W17 PB48B, W18 PB51B, W19 PB51A, W20 PB52A, W21 PR38B, W22 PR36A, Y1 PL38A, Y2 INITN, Y3 PB7B, Y4 PB12A, Y5 PB12B, Y6 PB18B, Y7 PB22A, Y8 PB23B, Y9 PB20A, Y10 PB20B, Y11 PB29A, Y12 PB29B, Y13 PB38A, Y14 PB38B, Y15 PB49A, Y16 PB50B, Y17 PB37A, Y18 PB39B, Y19 PB41A, Y20 PB43B, Y21 PB47B, Y22 PR38A

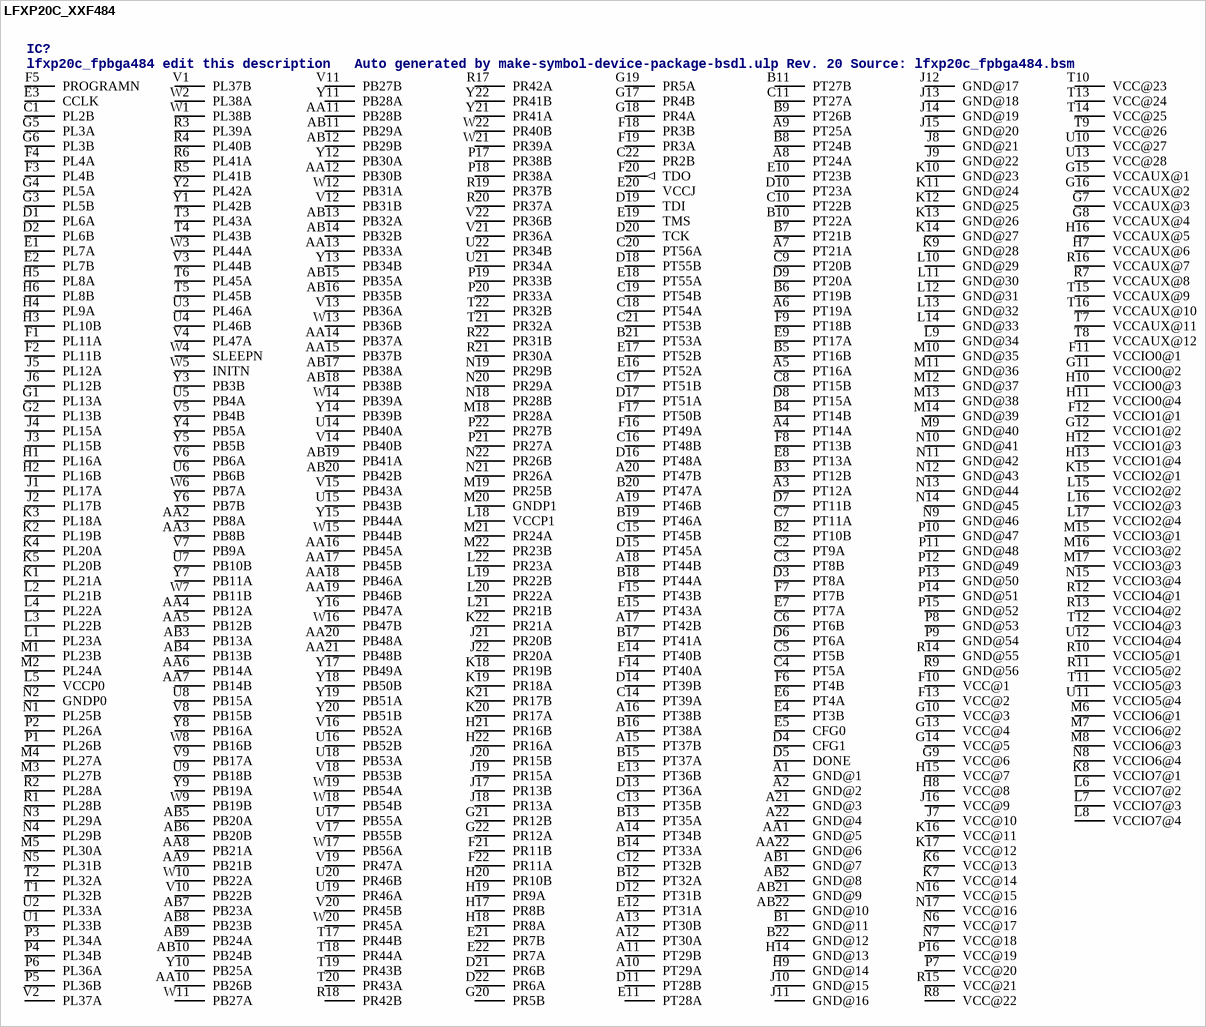
[diagram p17: symbol LFXP20C_XXF484]

## LFXP20C_XXF484
designator IC?, comment lfxp20c_fpbga484 edit this description   Auto generated by make-symbol-device-package-bsdl.ulp Rev. 20 Source: lfxp20c_fpbga484.bsm
OC_FARNELL: unknown; OC_NEWARK: unknown
footprint FPBGA_484
pins: A1 GND@1 (power), A2 GND@2 (power), A3 PT12A, A4 PT14A, A5 PT16A, A6 PT19A, A7 PT21A, A8 PT24A, A9 PT25A, A10 PT29A, A11 PT29B, A12 PT30A, A13 PT30B, A14 PT34B, A15 PT37B, A16 PT38B, A17 PT42B, A18 PT44B, A19 PT46B, A20 PT47B, A21 GND@3 (power), A22 GND@4 (power), AA1 GND@5 (power), AA2 PB8A, AA3 PB8B, AA4 PB12A, AA5 PB12B, AA6 PB14A, AA7 PB14B, AA8 PB21A, AA9 PB21B, AA10 PB26B, AA11 PB28B, AA12 PB30B, AA13 PB33A, AA14 PB37A, AA15 PB37B, AA16 PB45A, AA17 PB45B, AA18 PB46A, AA19 PB46B, AA20 PB48A, AA21 PB48B, AA22 GND@6 (power), AB1 GND@7 (power), AB2 GND@8 (power), AB3 PB13A, AB4 PB13B, AB5 PB20A, AB6 PB20B, AB7 PB23A, AB8 PB23B, AB9 PB24A, AB10 PB24B, AB11 PB29A, AB12 PB29B, AB13 PB32A, AB14 PB32B, AB15 PB35A, AB16 PB35B, AB17 PB38A, AB18 PB38B, AB19 PB41A, AB20 PB42B, AB21 GND@9 (power), AB22 GND@10 (power), B1 GND@11 (power), B2 PT10B, B3 PT12B, B4 PT14B, B5 PT16B, B6 PT19B, B7 PT21B, B8 PT24B, B9 PT26B, B10 PT22A, B11 PT27B, B12 PT32A, B13 PT35A, B14 PT33A, B15 PT37A, B16 PT38A, B17 PT41A, B18 PT44A, B19 PT46A, B20 PT47A, B21 PT53A, B22 GND@12 (power), C1 PL2B, C2 PT9A, C3 PT8B, C4 PT5A, C5 PT5B, C6 PT6B, C7 PT11A, C8 PT15B, C9 PT20B, C10 PT22B, C11 PT27A, C12 PT32B, C13 PT35B, C14 PT39A, C15 PT45B, C16 PT48B, C17 PT51B, C18 PT54A, C19 PT54B, C20 PT56A, C21 PT53B, C22 PR2B, D1 PL6A, D2 PL6B, D3 PT8A, D4 CFG1, D5 DONE, D6 PT6A, D7 PT11B, D8 PT15A, D9 PT20A, D10 PT23A, D11 PT28B, D12 PT31B, D13 PT36A, D14 PT39B, D15 PT45A, D16 PT48A, D17 PT51A, D18 PT55B, D19 TDI, D20 TCK, D21 PR6B, D22 PR6A, E1 PL7A, E2 PL7B, E3 CCLK, E4 PT3B, E5 CFG0, E6 PT4A, E7 PT7A, E8 PT13A, E9 PT17A, E10 PT23B, E11 PT28A, E12 PT31A, E13 PT36B, E14 PT40B, E15 PT43A, E16 PT52A, E17 PT52B, E18 PT55A, E19 TMS, E20 VCCJ (power), E21 PR7B, E22 PR7A, F1 PL11A, F2 PL11B, F3 PL4B, F4 PL4A, F5 PROGRAMN, F6 PT4B, F7 PT7B, F8 PT13B, F9 PT18B, F10 VCC@1 (power), F11 VCCIO0@1 (power), F12 VCCIO1@1 (power), F13 VCC@2 (power), F14 PT40A, F15 PT43B, F16 PT49A, F17 PT50B, F18 PR3B, F19 PR3A, F20 TDO (out), F21 PR11B, F22 PR11A, G1 PL13A, G2 PL13B, G3 PL5B, G4 PL5A, G5 PL3A, G6 PL3B, G7 VCCAUX@3 (power), G8 VCCAUX@4 (power), G9 VCC@6 (power), G10 VCC@3 (power), G11 VCCIO0@2 (power), G12 VCCIO1@2 (power), G13 VCC@4 (power), G14 VCC@5 (power), G15 VCCAUX@1 (power), G16 VCCAUX@2 (power), G17 PR4B, G18 PR4A, G19 PR5A, G20 PR5B, G21 PR12B, G22 PR12A, H1 PL16A, H2 PL16B, H3 PL10B, H4 PL9A, H5 PL8A, H6 PL8B, H7 VCCAUX@6 (power), H8 VCC@8 (power), H9 GND@14 (power), H10 VCCIO0@3 (power), H11 VCCIO0@4 (power), H12 VCCIO1@3 (power), H13 VCCIO1@4 (power), H14 GND@13 (power), H15 VCC@7 (power), H16 VCCAUX@5 (power), H17 PR8B, H18 PR8A, H19 PR9A, H20 PR10B, H21 PR16B, H22 PR16A, J1 PL17A, J2 PL17B, J3 PL15B, J4 PL15A, J5 PL12A, J6 PL12B, J7 VCC@10 (power), J8 GND@21 (power), J9 GND@22 (power), J10 GND@15 (power), J11 GND@16 (power), J12 GND@17 (power), J13 GND@18 (power), J14 GND@19 (power), J15 GND@20 (power), J16 VCC@9 (power), J17 PR13B, J18 PR13A, J19 PR15A, J20 PR15B, J21 PR20B, J22 PR20A, K1 PL21A, K2 PL19B, K3 PL18A, K4 PL20A, K5 PL20B, K6 VCC@13 (power), K7 VCC@14 (power), K8 VCCIO7@1 (power), K9 GND@28 (power), K10 GND@23 (power), K11 GND@24 (power), K12 GND@25 (power), K13 GND@26 (power), K14 GND@27 (power), K15 VCCIO2@1 (power), K16 VCC@11 (power), K17 VCC@12 (power), K18 PR19B, K19 PR18A, K20 PR17A, K21 PR17B, K22 PR21A, L1 PL23A, L2 PL21B, L3 PL22B, L4 PL22A, L5 VCCP0 (power), L6 VCCIO7@2 (power), L7 VCCIO7@3 (power), L8 VCCIO7@4 (power), L9 GND@34 (power), L10 GND@29 (power), L11 GND@30 (power), L12 GND@31 (power), L13 GND@32 (power), L14 GND@33 (power), L15 VCCIO2@2 (power), L16 VCCIO2@3 (power), L17 VCCIO2@4 (power), L18 VCCP1 (power), L19 PR22B, L20 PR22A, L21 PR21B, L22 PR23A, M1 PL23B, M2 PL24A, M3 PL27B, M4 PL27A, M5 PL30A, M6 VCCIO6@1 (power), M7 VCCIO6@2 (power), M8 VCCIO6@3 (power), M9 GND@40 (power), M10 GND@35 (power), M11 GND@36 (power), M12 GND@37 (power), M13 GND@38 (power), M14 GND@39 (power), M15 VCCIO3@1 (power), M16 VCCIO3@2 (power), M17 VCCIO3@3 (power), M18 PR28A, M19 PR25B, M20 GNDP1 (power), M21 PR24A, M22 PR23B, N1 PL25B, N2 GNDP0 (power), N3 PL29A, N4 PL29B, N5 PL31B, N6 VCC@17 (power), N7 VCC@18 (power), N8 VCCIO6@4 (power), N9 GND@46 (power), N10 GND@41 (power), N11 GND@42 (power), N12 GND@43 (power), N13 GND@44 (power), N14 GND@45 (power), N15 VCCIO3@4 (power), N16 VCC@15 (power), N17 VCC@16 (power), N18 PR28B, N19 PR29B, N20 PR29A, N21 PR26A, N22 PR26B, P1 PL26B, P2 PL26A, P3 PL34A, P4 PL34B, P5 PL36B, P6 PL36A, P7 VCC@20 (power), P8 GND@53 (power), P9 GND@54 (power), P10 GND@47 (power), P11 GND@48 (power), P12 GND@49 (power), P13 GND@50 (power), P14 GND@51 (power), P15 GND@52 (power), P16 VCC@19 (power), P17 PR38B, P18 PR38A, P19 PR33B, P20 PR33A, P21 PR27A, P22 PR27B, R1 PL28B, R2 PL28A, R3 PL39A, R4 PL40B, R5 PL41B, R6 PL41A, R7 VCCAUX@8 (power), R8 VCC@22 (power), R9 GND@56 (power), R10 VCCIO5@1 (power), R11 VCCIO5@2 (power), R12 VCCIO4@1 (power), R13 VCCIO4@2 (power), R14 GND@55 (power), R15 VCC@21 (power), R16 VCCAUX@7 (power), R17 PR42A, R18 PR42B, R19 PR37B, R20 PR37A, R21 PR30A, R22 PR31B, T1 PL32B, T2 PL32A, T3 PL43A, T4 PL43B, T5 PL45B, T6 PL45A, T7 VCCAUX@11 (power), T8 VCCAUX@12 (power), T9 VCC@26 (power), T10 VCC@23 (power), T11 VCCIO5@3 (power), T12 VCCIO4@3 (power), T13 VCC@24 (power), T14 VCC@25 (power), T15 VCCAUX@9 (power), T16 VCCAUX@10 (power), T17 PR44B, T18 PR44A, T19 PR43B, T20 PR43A, T21 PR32A, T22 PR32B, U1 PL33B, U2 PL33A, U3 PL46A, U4 PL46B, U5 PB4A, U6 PB6B, U7 PB10B, U8 PB15A, U9 PB18B, U10 VCC@27 (power), U11 VCCIO5@4 (power), U12 VCCIO4@4 (power), U13 VCC@28 (power), U14 PB40A, U15 PB43B, U16 PB52B, U17 PB55A, U18 PB53A, U19 PR46A, U20 PR46B, U21 PR34A, U22 PR34B, V1 PL37B, V2 PL37A, V3 PL44B, V4 PL47A, V5 PB4B, V6 PB6A, V7 PB9A, V8 PB15B, V9 PB17A, V10 PB22B, V11 PB27B, V12 PB31B, V13 PB36A, V14 PB40B, V15 PB43A, V16 PB52A, V17 PB55B, V18 PB53B, V19 PR47A, V20 PR45B, V21 PR36A, V22 PR36B, W1 PL38B, W2 PL38A, W3 PL44A, W4 SLEEPN, W5 INITN, W6 PB7A, W7 PB11B, W8 PB16B, W9 PB19B, W10 PB22A, W11 PB27A, W12 PB31A, W13 PB36B, W14 PB39A, W15 PB44B, W16 PB47B, W17 PB56A, W18 PB54B, W19 PB54A, W20 PR45A, W21 PR39A, W22 PR40B, Y1 PL42B, Y2 PL42A, Y3 PB3B, Y4 PB5A, Y5 PB5B, Y6 PB7B, Y7 PB11A, Y8 PB16A, Y9 PB19A, Y10 PB25A, Y11 PB28A, Y12 PB30A, Y13 PB34B, Y14 PB39B, Y15 PB44A, Y16 PB47A, Y17 PB49A, Y18 PB50B, Y19 PB51A, Y20 PB51B, Y21 PR41A, Y22 PR41B

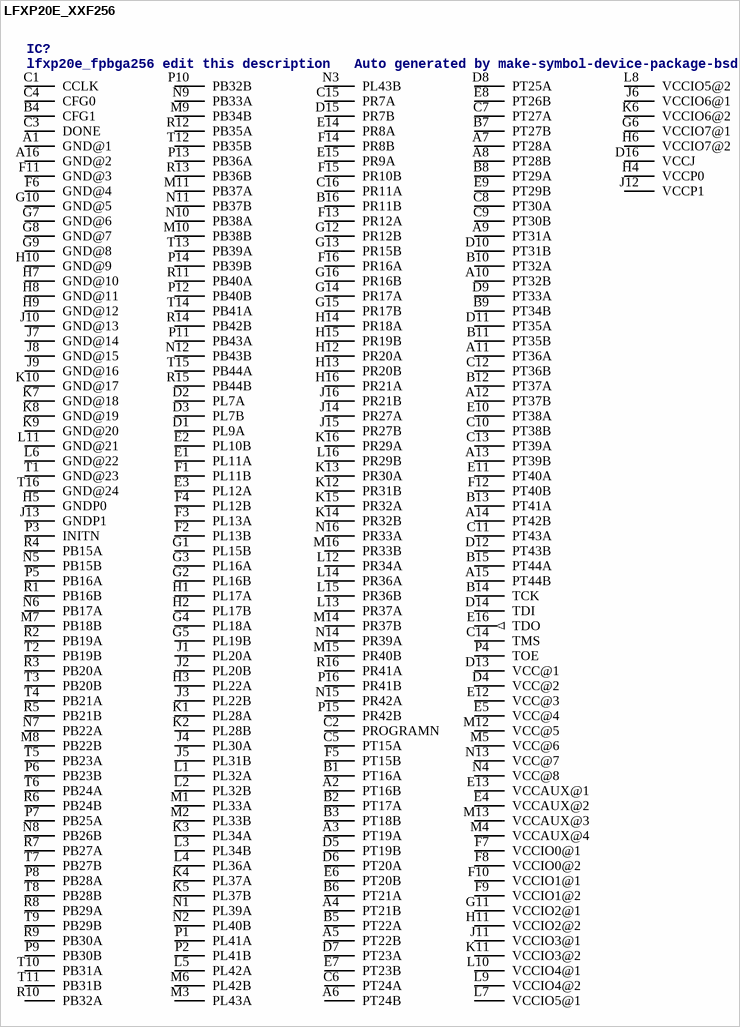
[diagram p18: symbol LFXP20E_XXF256]

## LFXP20E_XXF256
designator IC?, comment lfxp20e_fpbga256 edit this description   Auto generated by make-symbol-device-package-bsdl.ulp Rev. 20 Source: lfxp20e_fpbga256.bsm
OC_FARNELL: unknown; OC_NEWARK: unknown
footprint FPBGA_256
pins: A1 GND@1 (power), A2 PT16B, A3 PT19A, A4 PT21B, A5 PT22B, A6 PT24B, A7 PT28A, A8 PT28B, A9 PT31A, A10 PT32B, A11 PT36A, A12 PT37B, A13 PT39B, A14 PT42B, A15 PT44B, A16 GND@2 (power), B1 PT16A, B2 PT17A, B3 PT18B, B4 CFG1, B5 PT22A, B6 PT21A, B7 PT27B, B8 PT29A, B9 PT34B, B10 PT32A, B11 PT35B, B12 PT37A, B13 PT41A, B14 TCK, B15 PT44A, B16 PR11B, C1 CCLK, C2 PROGRAMN, C3 DONE, C4 CFG0, C5 PT15A, C6 PT24A, C7 PT27A, C8 PT30A, C9 PT30B, C10 PT38B, C11 PT43A, C12 PT36B, C13 PT39A, C14 TMS, C15 PR7A, C16 PR11A, D1 PL9A, D2 PL7A, D3 PL7B, D4 VCC@2 (power), D5 PT19B, D6 PT20A, D7 PT23A, D8 PT25A, D9 PT33A, D10 PT31B, D11 PT35A, D12 PT43B, D13 VCC@1 (power), D14 TDI, D15 PR7B, D16 VCCJ (power), E1 PL11A, E2 PL10B, E3 PL12A, E4 VCCAUX@2 (power), E5 VCC@4 (power), E6 PT20B, E7 PT23B, E8 PT26B, E9 PT29B, E10 PT38A, E11 PT40A, E12 VCC@3 (power), E13 VCCAUX@1 (power), E14 PR8A, E15 PR9A, E16 TDO (out), F1 PL11B, F2 PL13B, F3 PL13A, F4 PL12B, F5 PT15B, F6 GND@4 (power), F7 VCCIO0@1 (power), F8 VCCIO0@2 (power), F9 VCCIO1@2 (power), F10 VCCIO1@1 (power), F11 GND@3 (power), F12 PT40B, F13 PR12A, F14 PR8B, F15 PR10B, F16 PR16A, G1 PL15B, G2 PL16B, G3 PL16A, G4 PL18A, G5 PL19B, G6 VCCIO7@1 (power), G7 GND@6 (power), G8 GND@7 (power), G9 GND@8 (power), G10 GND@5 (power), G11 VCCIO2@1 (power), G12 PR12B, G13 PR15B, G14 PR17A, G15 PR17B, G16 PR16B, H1 PL17A, H2 PL17B, H3 PL22A, H4 VCCP0 (power), H5 GNDP0 (power), H6 VCCIO7@2 (power), H7 GND@10 (power), H8 GND@11 (power), H9 GND@12 (power), H10 GND@9 (power), H11 VCCIO2@2 (power), H12 PR20A, H13 PR20B, H14 PR18A, H15 PR19B, H16 PR21A, J1 PL20A, J2 PL20B, J3 PL22B, J4 PL30A, J5 PL31B, J6 VCCIO6@1 (power), J7 GND@14 (power), J8 GND@15 (power), J9 GND@16 (power), J10 GND@13 (power), J11 VCCIO3@1 (power), J12 VCCP1 (power), J13 GNDP1 (power), J14 PR27A, J15 PR27B, J16 PR21B, K1 PL28A, K2 PL28B, K3 PL34A, K4 PL37A, K5 PL37B, K6 VCCIO6@2 (power), K7 GND@18 (power), K8 GND@19 (power), K9 GND@20 (power), K10 GND@17 (power), K11 VCCIO3@2 (power), K12 PR31B, K13 PR30A, K14 PR32B, K15 PR32A, K16 PR29A, L1 PL32A, L2 PL32B, L3 PL34B, L4 PL36A, L5 PL42A, L6 GND@22 (power), L7 VCCIO5@1 (power), L8 VCCIO5@2 (power), L9 VCCIO4@2 (power), L10 VCCIO4@1 (power), L11 GND@21 (power), L12 PR34A, L13 PR37A, L14 PR36A, L15 PR36B, L16 PR29B, M1 PL33A, M2 PL33B, M3 PL43A, M4 VCCAUX@4 (power), M5 VCC@6 (power), M6 PL42B, M7 PB18B, M8 PB22B, M9 PB34B, M10 PB38B, M11 PB37A, M12 VCC@5 (power), M13 VCCAUX@3 (power), M14 PR37B, M15 PR40B, M16 PR33B, N1 PL39A, N2 PL40B, N3 PL43B, N4 VCC@8 (power), N5 PB15B, N6 PB17A, N7 PB22A, N8 PB26B, N9 PB33A, N10 PB38A, N11 PB37B, N12 PB43B, N13 VCC@7 (power), N14 PR39A, N15 PR42A, N16 PR33A, P1 PL41A, P2 PL41B, P3 INITN, P4 TOE, P5 PB16A, P6 PB23B, P7 PB25A, P8 PB28A, P9 PB30B, P10 PB32B, P11 PB43A, P12 PB40B, P13 PB36A, P14 PB39B, P15 PR42B, P16 PR41B, R1 PB16B, R2 PB19A, R3 PB20A, R4 PB15A, R5 PB21B, R6 PB24B, R7 PB27A, R8 PB29A, R9 PB30A, R10 PB32A, R11 PB40A, R12 PB35A, R13 PB36B, R14 PB42B, R15 PB44B, R16 PR41A, T1 GND@23 (power), T2 PB19B, T3 PB20B, T4 PB21A, T5 PB23A, T6 PB24A, T7 PB27B, T8 PB28B, T9 PB29B, T10 PB31A, T11 PB31B, T12 PB35B, T13 PB39A, T14 PB41A, T15 PB44A, T16 GND@24 (power)

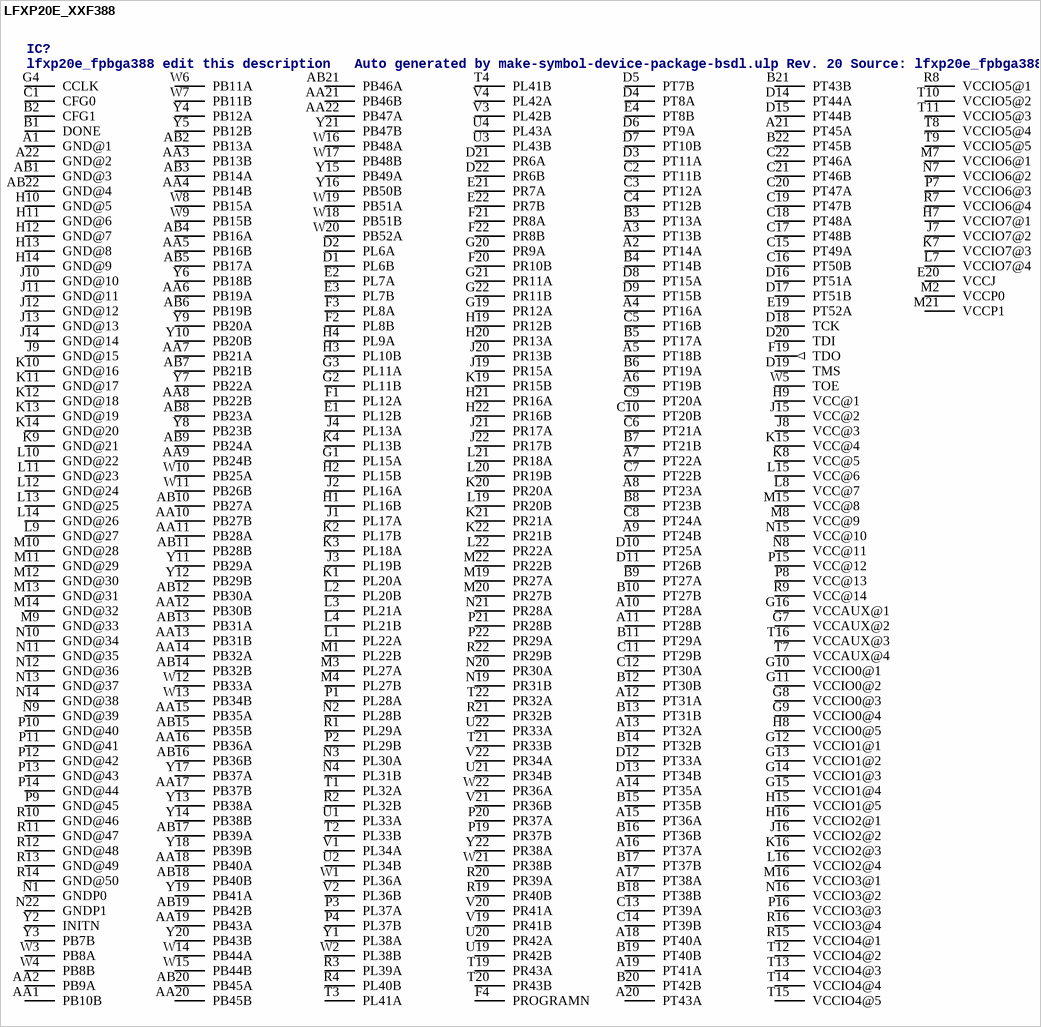
[diagram p19: symbol LFXP20E_XXF388]

## LFXP20E_XXF388
designator IC?, comment lfxp20e_fpbga388 edit this description   Auto generated by make-symbol-device-package-bsdl.ulp Rev. 20 Source: lfxp20e_fpbga388.bsm
OC_FARNELL: unknown; OC_NEWARK: unknown
footprint FPBGA388
pins: A1 GND@1 (power), A2 PT14A, A3 PT13B, A4 PT16A, A5 PT18B, A6 PT19B, A7 PT22A, A8 PT23A, A9 PT24B, A10 PT28A, A11 PT28B, A12 PT31A, A13 PT32A, A14 PT35A, A15 PT36A, A16 PT37A, A17 PT38A, A18 PT40A, A19 PT41A, A20 PT43A, A21 PT45A, A22 GND@2 (power), AA1 PB10B, AA2 PB9A, AA3 PB13B, AA4 PB14B, AA5 PB16B, AA6 PB19A, AA7 PB21A, AA8 PB22B, AA9 PB24B, AA10 PB27B, AA11 PB28A, AA12 PB30B, AA13 PB31B, AA14 PB32A, AA15 PB35A, AA16 PB36A, AA17 PB37B, AA18 PB40A, AA19 PB43A, AA20 PB45B, AA21 PB46B, AA22 PB47A, AB1 GND@3 (power), AB2 PB13A, AB3 PB14A, AB4 PB16A, AB5 PB17A, AB6 PB19B, AB7 PB21B, AB8 PB23A, AB9 PB24A, AB10 PB27A, AB11 PB28B, AB12 PB30A, AB13 PB31A, AB14 PB32B, AB15 PB35B, AB16 PB36B, AB17 PB39A, AB18 PB40B, AB19 PB42B, AB20 PB45A, AB21 PB46A, AB22 GND@4 (power), B1 DONE, B2 CFG1, B3 PT13A, B4 PT14B, B5 PT17A, B6 PT19A, B7 PT21B, B8 PT23B, B9 PT27A, B10 PT27B, B11 PT29A, B12 PT30B, B13 PT31B, B14 PT32B, B15 PT35B, B16 PT36B, B17 PT37B, B18 PT38B, B19 PT40B, B20 PT42B, B21 PT43B, B22 PT45B, C1 CFG0, C2 PT11B, C3 PT12A, C4 PT12B, C5 PT16B, C6 PT21A, C7 PT22B, C8 PT24A, C9 PT20A, C10 PT20B, C11 PT29B, C12 PT30A, C13 PT39A, C14 PT39B, C15 PT49A, C16 PT50B, C17 PT48B, C18 PT48A, C19 PT47B, C20 PT47A, C21 PT46B, C22 PT46A, D1 PL6B, D2 PL6A, D3 PT11A, D4 PT8A, D5 PT7B, D6 PT9A, D7 PT10B, D8 PT15A, D9 PT15B, D10 PT25A, D11 PT26B, D12 PT33A, D13 PT34B, D14 PT44A, D15 PT44B, D16 PT51A, D17 PT51B, D18 TCK, D19 TMS, D20 TDI, D21 PR6A, D22 PR6B, E1 PL12B, E2 PL7A, E3 PL7B, E4 PT8B, E19 PT52A, E20 VCCJ (power), E21 PR7A, E22 PR7B, F1 PL12A, F2 PL8B, F3 PL8A, F4 PROGRAMN, F19 TDO (out), F20 PR10B, F21 PR8A, F22 PR8B, G1 PL15A, G2 PL11B, G3 PL11A, G4 CCLK, G7 VCCAUX@2 (power), G8 VCCIO0@3 (power), G9 VCCIO0@4 (power), G10 VCCIO0@1 (power), G11 VCCIO0@2 (power), G12 VCCIO1@1 (power), G13 VCCIO1@2 (power), G14 VCCIO1@3 (power), G15 VCCIO1@4 (power), G16 VCCAUX@1 (power), G19 PR12A, G20 PR9A, G21 PR11A, G22 PR11B, H1 PL16B, H2 PL15B, H3 PL10B, H4 PL9A, H7 VCCIO7@1 (power), H8 VCCIO0@5 (power), H9 VCC@1 (power), H10 GND@5 (power), H11 GND@6 (power), H12 GND@7 (power), H13 GND@8 (power), H14 GND@9 (power), H15 VCCIO1@5 (power), H16 VCCIO2@1 (power), H19 PR12B, H20 PR13A, H21 PR16A, H22 PR16B, J1 PL17A, J2 PL16A, J3 PL19B, J4 PL13A, J7 VCCIO7@2 (power), J8 VCC@3 (power), J9 GND@15 (power), J10 GND@10 (power), J11 GND@11 (power), J12 GND@12 (power), J13 GND@13 (power), J14 GND@14 (power), J15 VCC@2 (power), J16 VCCIO2@2 (power), J19 PR15A, J20 PR13B, J21 PR17A, J22 PR17B, K1 PL20A, K2 PL17B, K3 PL18A, K4 PL13B, K7 VCCIO7@3 (power), K8 VCC@5 (power), K9 GND@21 (power), K10 GND@16 (power), K11 GND@17 (power), K12 GND@18 (power), K13 GND@19 (power), K14 GND@20 (power), K15 VCC@4 (power), K16 VCCIO2@3 (power), K19 PR15B, K20 PR20A, K21 PR21A, K22 PR21B, L1 PL22A, L2 PL20B, L3 PL21A, L4 PL21B, L7 VCCIO7@4 (power), L8 VCC@7 (power), L9 GND@27 (power), L10 GND@22 (power), L11 GND@23 (power), L12 GND@24 (power), L13 GND@25 (power), L14 GND@26 (power), L15 VCC@6 (power), L16 VCCIO2@4 (power), L19 PR20B, L20 PR19B, L21 PR18A, L22 PR22A, M1 PL22B, M2 VCCP0 (power), M3 PL27A, M4 PL27B, M7 VCCIO6@1 (power), M8 VCC@9 (power), M9 GND@33 (power), M10 GND@28 (power), M11 GND@29 (power), M12 GND@30 (power), M13 GND@31 (power), M14 GND@32 (power), M15 VCC@8 (power), M16 VCCIO3@1 (power), M19 PR27A, M20 PR27B, M21 VCCP1 (power), M22 PR22B, N1 GNDP0 (power), N2 PL28B, N3 PL30A, N4 PL31B, N7 VCCIO6@2 (power), N8 VCC@11 (power), N9 GND@39 (power), N10 GND@34 (power), N11 GND@35 (power), N12 GND@36 (power), N13 GND@37 (power), N14 GND@38 (power), N15 VCC@10 (power), N16 VCCIO3@2 (power), N19 PR31B, N20 PR30A, N21 PR28A, N22 GNDP1 (power), P1 PL28A, P2 PL29B, P3 PL37A, P4 PL37B, P7 VCCIO6@3 (power), P8 VCC@13 (power), P9 GND@45 (power), P10 GND@40 (power), P11 GND@41 (power), P12 GND@42 (power), P13 GND@43 (power), P14 GND@44 (power), P15 VCC@12 (power), P16 VCCIO3@3 (power), P19 PR37B, P20 PR37A, P21 PR28B, P22 PR29A, R1 PL29A, R2 PL32B, R3 PL39A, R4 PL40B, R7 VCCIO6@4 (power), R8 VCCIO5@1 (power), R9 VCC@14 (power), R10 GND@46 (power), R11 GND@47 (power), R12 GND@48 (power), R13 GND@49 (power), R14 GND@50 (power), R15 VCCIO4@1 (power), R16 VCCIO3@4 (power), R19 PR40B, R20 PR39A, R21 PR32B, R22 PR29B, T1 PL32A, T2 PL33B, T3 PL41A, T4 PL41B, T7 VCCAUX@4 (power), T8 VCCIO5@4 (power), T9 VCCIO5@5 (power), T10 VCCIO5@2 (power), T11 VCCIO5@3 (power), T12 VCCIO4@2 (power), T13 VCCIO4@3 (power), T14 VCCIO4@4 (power), T15 VCCIO4@5 (power), T16 VCCAUX@3 (power), T19 PR43A, T20 PR43B, T21 PR33B, T22 PR32A, U1 PL33A, U2 PL34B, U3 PL43B, U4 PL43A, U19 PR42B, U20 PR42A, U21 PR34B, U22 PR33A, V1 PL34A, V2 PL36B, V3 PL42B, V4 PL42A, V19 PR41B, V20 PR41A, V21 PR36B, V22 PR34A, W1 PL36A, W2 PL38B, W3 PB8A, W4 PB8B, W5 TOE, W6 PB11A, W7 PB11B, W8 PB15A, W9 PB15B, W10 PB25A, W11 PB26B, W12 PB33A, W13 PB34B, W14 PB44A, W15 PB44B, W16 PB48A, W17 PB48B, W18 PB51B, W19 PB51A, W20 PB52A, W21 PR38B, W22 PR36A, Y1 PL38A, Y2 INITN, Y3 PB7B, Y4 PB12A, Y5 PB12B, Y6 PB18B, Y7 PB22A, Y8 PB23B, Y9 PB20A, Y10 PB20B, Y11 PB29A, Y12 PB29B, Y13 PB38A, Y14 PB38B, Y15 PB49A, Y16 PB50B, Y17 PB37A, Y18 PB39B, Y19 PB41A, Y20 PB43B, Y21 PB47B, Y22 PR38A

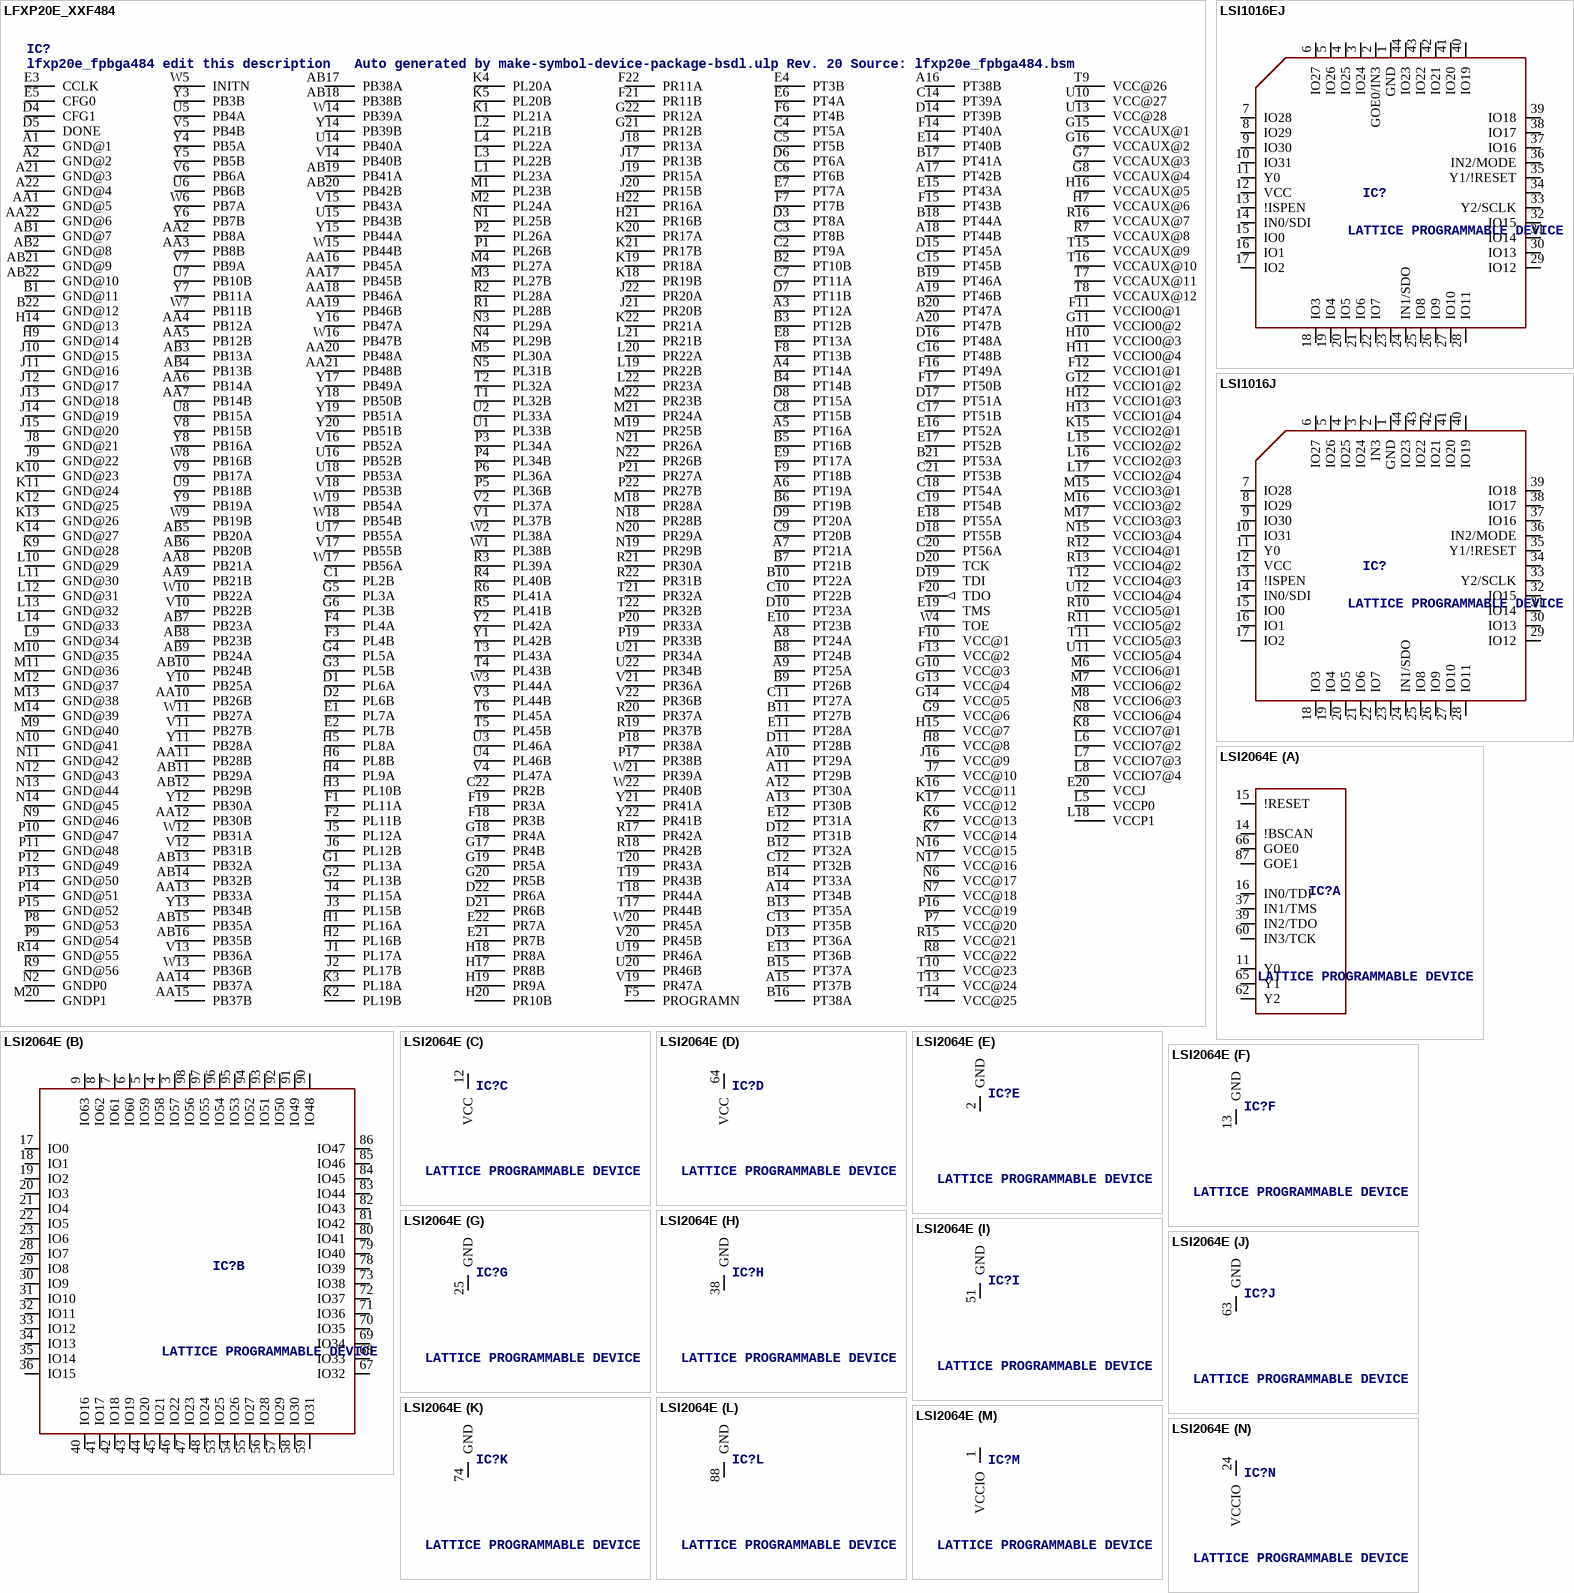
[diagram p20: symbols LFXP20E_XXF484 to LSI2064E]

## LFXP20E_XXF484
designator IC?, comment lfxp20e_fpbga484 edit this description   Auto generated by make-symbol-device-package-bsdl.ulp Rev. 20 Source: lfxp20e_fpbga484.bsm
OC_FARNELL: unknown; OC_NEWARK: unknown
footprint FPBGA_484
pins: A1 GND@1 (power), A2 GND@2 (power), A3 PT12A, A4 PT14A, A5 PT16A, A6 PT19A, A7 PT21A, A8 PT24A, A9 PT25A, A10 PT29A, A11 PT29B, A12 PT30A, A13 PT30B, A14 PT34B, A15 PT37B, A16 PT38B, A17 PT42B, A18 PT44B, A19 PT46B, A20 PT47B, A21 GND@3 (power), A22 GND@4 (power), AA1 GND@5 (power), AA2 PB8A, AA3 PB8B, AA4 PB12A, AA5 PB12B, AA6 PB14A, AA7 PB14B, AA8 PB21A, AA9 PB21B, AA10 PB26B, AA11 PB28B, AA12 PB30B, AA13 PB33A, AA14 PB37A, AA15 PB37B, AA16 PB45A, AA17 PB45B, AA18 PB46A, AA19 PB46B, AA20 PB48A, AA21 PB48B, AA22 GND@6 (power), AB1 GND@7 (power), AB2 GND@8 (power), AB3 PB13A, AB4 PB13B, AB5 PB20A, AB6 PB20B, AB7 PB23A, AB8 PB23B, AB9 PB24A, AB10 PB24B, AB11 PB29A, AB12 PB29B, AB13 PB32A, AB14 PB32B, AB15 PB35A, AB16 PB35B, AB17 PB38A, AB18 PB38B, AB19 PB41A, AB20 PB42B, AB21 GND@9 (power), AB22 GND@10 (power), B1 GND@11 (power), B2 PT10B, B3 PT12B, B4 PT14B, B5 PT16B, B6 PT19B, B7 PT21B, B8 PT24B, B9 PT26B, B10 PT22A, B11 PT27B, B12 PT32A, B13 PT35A, B14 PT33A, B15 PT37A, B16 PT38A, B17 PT41A, B18 PT44A, B19 PT46A, B20 PT47A, B21 PT53A, B22 GND@12 (power), C1 PL2B, C2 PT9A, C3 PT8B, C4 PT5A, C5 PT5B, C6 PT6B, C7 PT11A, C8 PT15B, C9 PT20B, C10 PT22B, C11 PT27A, C12 PT32B, C13 PT35B, C14 PT39A, C15 PT45B, C16 PT48B, C17 PT51B, C18 PT54A, C19 PT54B, C20 PT56A, C21 PT53B, C22 PR2B, D1 PL6A, D2 PL6B, D3 PT8A, D4 CFG1, D5 DONE, D6 PT6A, D7 PT11B, D8 PT15A, D9 PT20A, D10 PT23A, D11 PT28B, D12 PT31B, D13 PT36A, D14 PT39B, D15 PT45A, D16 PT48A, D17 PT51A, D18 PT55B, D19 TDI, D20 TCK, D21 PR6B, D22 PR6A, E1 PL7A, E2 PL7B, E3 CCLK, E4 PT3B, E5 CFG0, E6 PT4A, E7 PT7A, E8 PT13A, E9 PT17A, E10 PT23B, E11 PT28A, E12 PT31A, E13 PT36B, E14 PT40B, E15 PT43A, E16 PT52A, E17 PT52B, E18 PT55A, E19 TMS, E20 VCCJ (power), E21 PR7B, E22 PR7A, F1 PL11A, F2 PL11B, F3 PL4B, F4 PL4A, F5 PROGRAMN, F6 PT4B, F7 PT7B, F8 PT13B, F9 PT18B, F10 VCC@1 (power), F11 VCCIO0@1 (power), F12 VCCIO1@1 (power), F13 VCC@2 (power), F14 PT40A, F15 PT43B, F16 PT49A, F17 PT50B, F18 PR3B, F19 PR3A, F20 TDO (out), F21 PR11B, F22 PR11A, G1 PL13A, G2 PL13B, G3 PL5B, G4 PL5A, G5 PL3A, G6 PL3B, G7 VCCAUX@3 (power), G8 VCCAUX@4 (power), G9 VCC@6 (power), G10 VCC@3 (power), G11 VCCIO0@2 (power), G12 VCCIO1@2 (power), G13 VCC@4 (power), G14 VCC@5 (power), G15 VCCAUX@1 (power), G16 VCCAUX@2 (power), G17 PR4B, G18 PR4A, G19 PR5A, G20 PR5B, G21 PR12B, G22 PR12A, H1 PL16A, H2 PL16B, H3 PL10B, H4 PL9A, H5 PL8A, H6 PL8B, H7 VCCAUX@6 (power), H8 VCC@8 (power), H9 GND@14 (power), H10 VCCIO0@3 (power), H11 VCCIO0@4 (power), H12 VCCIO1@3 (power), H13 VCCIO1@4 (power), H14 GND@13 (power), H15 VCC@7 (power), H16 VCCAUX@5 (power), H17 PR8B, H18 PR8A, H19 PR9A, H20 PR10B, H21 PR16B, H22 PR16A, J1 PL17A, J2 PL17B, J3 PL15B, J4 PL15A, J5 PL12A, J6 PL12B, J7 VCC@10 (power), J8 GND@21 (power), J9 GND@22 (power), J10 GND@15 (power), J11 GND@16 (power), J12 GND@17 (power), J13 GND@18 (power), J14 GND@19 (power), J15 GND@20 (power), J16 VCC@9 (power), J17 PR13B, J18 PR13A, J19 PR15A, J20 PR15B, J21 PR20B, J22 PR20A, K1 PL21A, K2 PL19B, K3 PL18A, K4 PL20A, K5 PL20B, K6 VCC@13 (power), K7 VCC@14 (power), K8 VCCIO7@1 (power), K9 GND@28 (power), K10 GND@23 (power), K11 GND@24 (power), K12 GND@25 (power), K13 GND@26 (power), K14 GND@27 (power), K15 VCCIO2@1 (power), K16 VCC@11 (power), K17 VCC@12 (power), K18 PR19B, K19 PR18A, K20 PR17A, K21 PR17B, K22 PR21A, L1 PL23A, L2 PL21B, L3 PL22B, L4 PL22A, L5 VCCP0 (power), L6 VCCIO7@2 (power), L7 VCCIO7@3 (power), L8 VCCIO7@4 (power), L9 GND@34 (power), L10 GND@29 (power), L11 GND@30 (power), L12 GND@31 (power), L13 GND@32 (power), L14 GND@33 (power), L15 VCCIO2@2 (power), L16 VCCIO2@3 (power), L17 VCCIO2@4 (power), L18 VCCP1 (power), L19 PR22B, L20 PR22A, L21 PR21B, L22 PR23A, M1 PL23B, M2 PL24A, M3 PL27B, M4 PL27A, M5 PL30A, M6 VCCIO6@1 (power), M7 VCCIO6@2 (power), M8 VCCIO6@3 (power), M9 GND@40 (power), M10 GND@35 (power), M11 GND@36 (power), M12 GND@37 (power), M13 GND@38 (power), M14 GND@39 (power), M15 VCCIO3@1 (power), M16 VCCIO3@2 (power), M17 VCCIO3@3 (power), M18 PR28A, M19 PR25B, M20 GNDP1 (power), M21 PR24A, M22 PR23B, N1 PL25B, N2 GNDP0 (power), N3 PL29A, N4 PL29B, N5 PL31B, N6 VCC@17 (power), N7 VCC@18 (power), N8 VCCIO6@4 (power), N9 GND@46 (power), N10 GND@41 (power), N11 GND@42 (power), N12 GND@43 (power), N13 GND@44 (power), N14 GND@45 (power), N15 VCCIO3@4 (power), N16 VCC@15 (power), N17 VCC@16 (power), N18 PR28B, N19 PR29B, N20 PR29A, N21 PR26A, N22 PR26B, P1 PL26B, P2 PL26A, P3 PL34A, P4 PL34B, P5 PL36B, P6 PL36A, P7 VCC@20 (power), P8 GND@53 (power), P9 GND@54 (power), P10 GND@47 (power), P11 GND@48 (power), P12 GND@49 (power), P13 GND@50 (power), P14 GND@51 (power), P15 GND@52 (power), P16 VCC@19 (power), P17 PR38B, P18 PR38A, P19 PR33B, P20 PR33A, P21 PR27A, P22 PR27B, R1 PL28B, R2 PL28A, R3 PL39A, R4 PL40B, R5 PL41B, R6 PL41A, R7 VCCAUX@8 (power), R8 VCC@22 (power), R9 GND@56 (power), R10 VCCIO5@1 (power), R11 VCCIO5@2 (power), R12 VCCIO4@1 (power), R13 VCCIO4@2 (power), R14 GND@55 (power), R15 VCC@21 (power), R16 VCCAUX@7 (power), R17 PR42A, R18 PR42B, R19 PR37B, R20 PR37A, R21 PR30A, R22 PR31B, T1 PL32B, T2 PL32A, T3 PL43A, T4 PL43B, T5 PL45B, T6 PL45A, T7 VCCAUX@11 (power), T8 VCCAUX@12 (power), T9 VCC@26 (power), T10 VCC@23 (power), T11 VCCIO5@3 (power), T12 VCCIO4@3 (power), T13 VCC@24 (power), T14 VCC@25 (power), T15 VCCAUX@9 (power), T16 VCCAUX@10 (power), T17 PR44B, T18 PR44A, T19 PR43B, T20 PR43A, T21 PR32A, T22 PR32B, U1 PL33B, U2 PL33A, U3 PL46A, U4 PL46B, U5 PB4A, U6 PB6B, U7 PB10B, U8 PB15A, U9 PB18B, U10 VCC@27 (power), U11 VCCIO5@4 (power), U12 VCCIO4@4 (power), U13 VCC@28 (power), U14 PB40A, U15 PB43B, U16 PB52B, U17 PB55A, U18 PB53A, U19 PR46A, U20 PR46B, U21 PR34A, U22 PR34B, V1 PL37B, V2 PL37A, V3 PL44B, V4 PL47A, V5 PB4B, V6 PB6A, V7 PB9A, V8 PB15B, V9 PB17A, V10 PB22B, V11 PB27B, V12 PB31B, V13 PB36A, V14 PB40B, V15 PB43A, V16 PB52A, V17 PB55B, V18 PB53B, V19 PR47A, V20 PR45B, V21 PR36A, V22 PR36B, W1 PL38B, W2 PL38A, W3 PL44A, W4 TOE, W5 INITN, W6 PB7A, W7 PB11B, W8 PB16B, W9 PB19B, W10 PB22A, W11 PB27A, W12 PB31A, W13 PB36B, W14 PB39A, W15 PB44B, W16 PB47B, W17 PB56A, W18 PB54B, W19 PB54A, W20 PR45A, W21 PR39A, W22 PR40B, Y1 PL42B, Y2 PL42A, Y3 PB3B, Y4 PB5A, Y5 PB5B, Y6 PB7B, Y7 PB11A, Y8 PB16A, Y9 PB19A, Y10 PB25A, Y11 PB28A, Y12 PB30A, Y13 PB34B, Y14 PB39B, Y15 PB44A, Y16 PB47A, Y17 PB49A, Y18 PB50B, Y19 PB51A, Y20 PB51B, Y21 PR41A, Y22 PR41B

## LSI1016EJ
designator IC?, comment LATTICE PROGRAMMABLE DEVICE
MPN: ISPLSI1016E-125LJN; OC_FARNELL: 1359294; OC_NEWARK: 50M4003
footprint PLCC44
pins: 1 GND (power), 2 GOE0/IN3, 3 IO24, 4 IO25, 5 IO26, 6 IO27, 7 IO28, 8 IO29, 9 IO30, 10 IO31, 11 Y0, 12 VCC (power), 13 !ISPEN, 14 IN0/SDI, 15 IO0, 16 IO1, 17 IO2, 18 IO3, 19 IO4, 20 IO5, 21 IO6, 22 IO7, 23 GND@1 (power), 24 IN1/SDO, 25 IO8, 26 IO9, 27 IO10, 28 IO11, 29 IO12, 30 IO13, 31 IO14, 32 IO15, 33 Y2/SCLK, 34 VCC@1 (power), 35 Y1/!RESET, 36 IN2/MODE, 37 IO16, 38 IO17, 39 IO18, 40 IO19, 41 IO20, 42 IO21, 43 IO22, 44 IO23

## LSI1016J
designator IC?, comment LATTICE PROGRAMMABLE DEVICE
OC_FARNELL: unknown; OC_NEWARK: unknown
footprint PLCC44
pins: 1 GND (power), 2 IN3, 3 IO24, 4 IO25, 5 IO26, 6 IO27, 7 IO28, 8 IO29, 9 IO30, 10 IO31, 11 Y0, 12 VCC (power), 13 !ISPEN, 14 IN0/SDI, 15 IO0, 16 IO1, 17 IO2, 18 IO3, 19 IO4, 20 IO5, 21 IO6, 22 IO7, 23 GND@1 (power), 24 IN1/SDO, 25 IO8, 26 IO9, 27 IO10, 28 IO11, 29 IO12, 30 IO13, 31 IO14, 32 IO15, 33 Y2/SCLK, 34 VCC@1 (power), 35 Y1/!RESET, 36 IN2/MODE, 37 IO16, 38 IO17, 39 IO18, 40 IO19, 41 IO20, 42 IO21, 43 IO22, 44 IO23

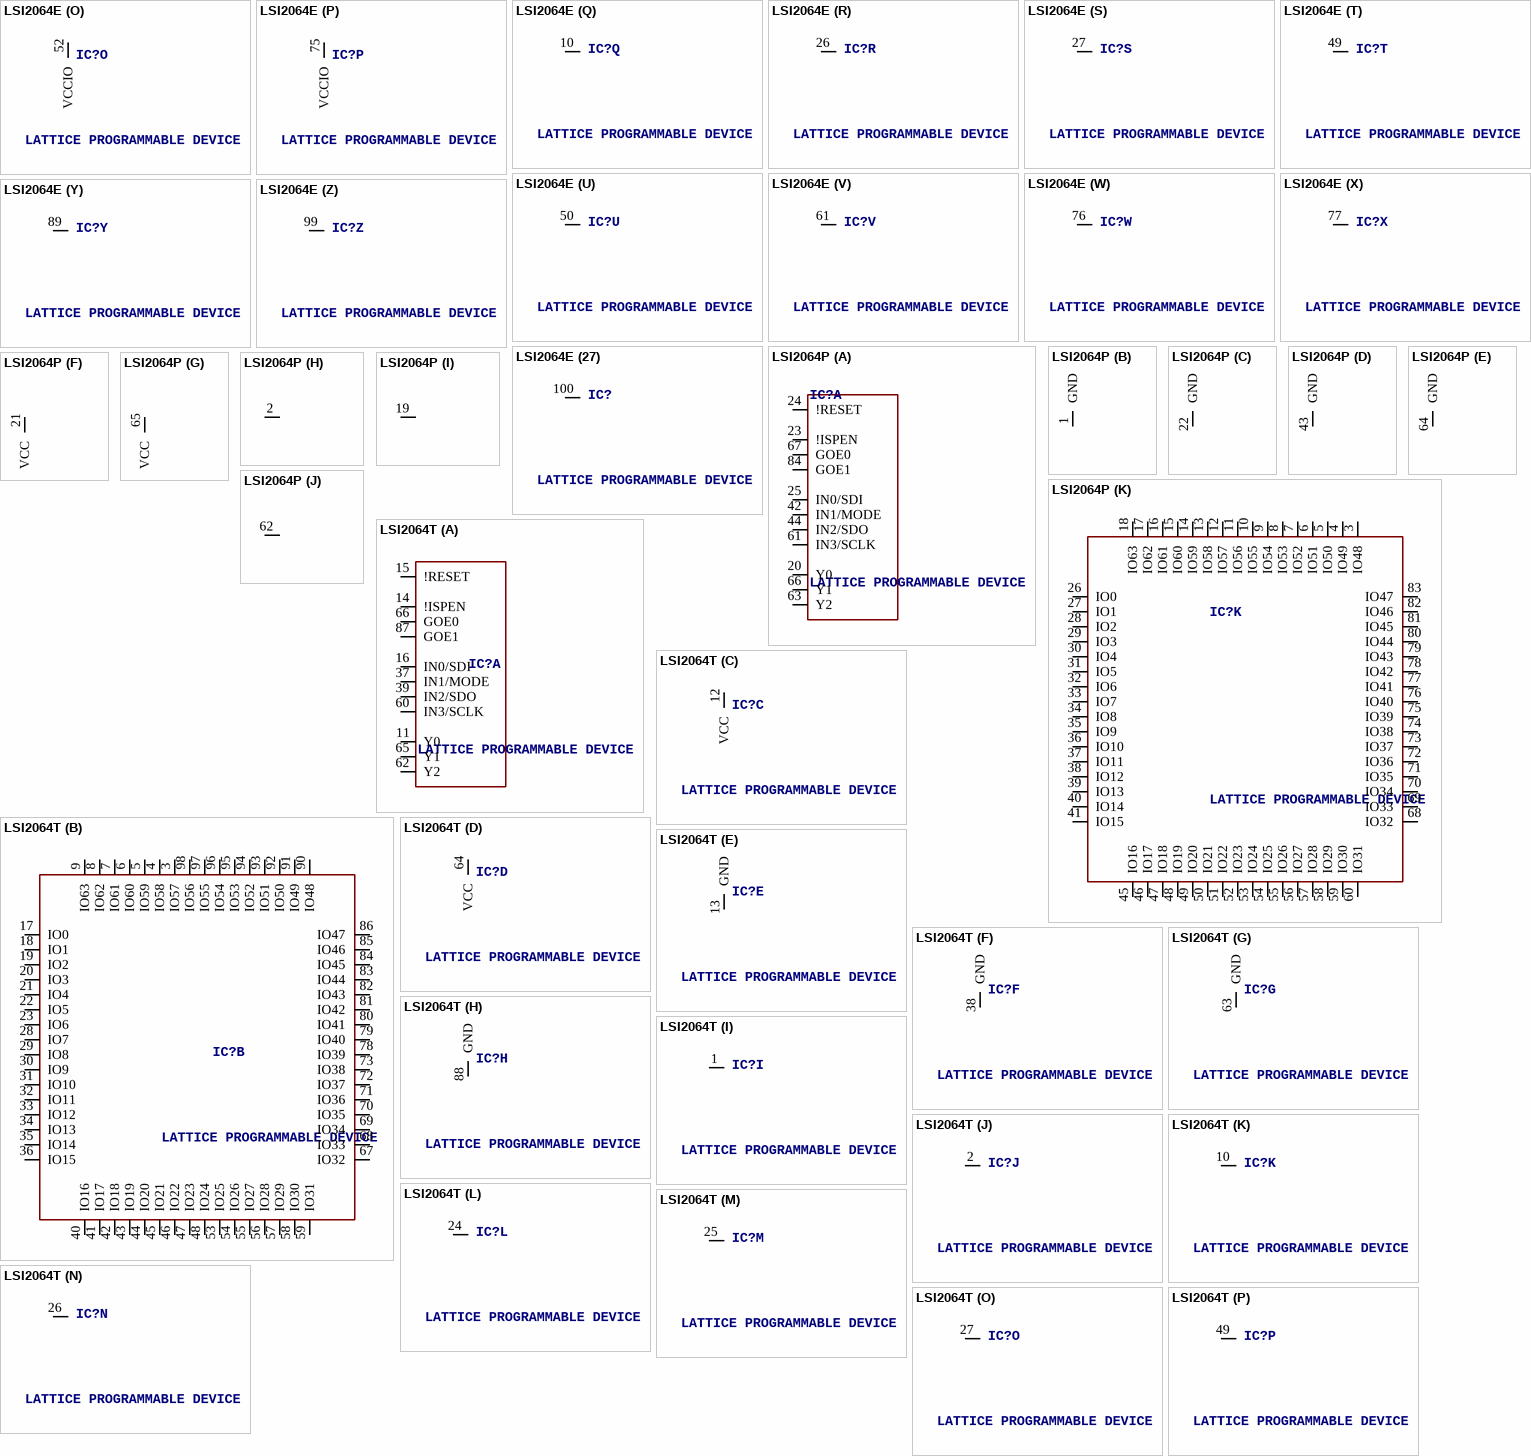
[diagram p21: symbols LSI2064E to LSI2064T]

## LSI2064E
designator IC?, comment LATTICE PROGRAMMABLE DEVICE
OC_FARNELL: unknown; OC_NEWARK: unknown
footprint TQFP100
part A pins: 11 Y0, 14 !BSCAN, 15 !RESET, 16 IN0/TDI, 37 IN1/TMS, 39 IN2/TDO, 60 IN3/TCK, 62 Y2, 65 Y1, 66 GOE0, 87 GOE1
part B pins: 3 IO57, 4 IO58, 5 IO59, 6 IO60, 7 IO61, 8 IO62, 9 IO63, 17 IO0, 18 IO1, 19 IO2, 20 IO3, 21 IO4, 22 IO5, 23 IO6, 28 IO7, 29 IO8, 30 IO9, 31 IO10, 32 IO11, 33 IO12, 34 IO13, 35 IO14, 36 IO15, 40 IO16, 41 IO17, 42 IO18, 43 IO19, 44 IO20, 45 IO21, 46 IO22, 47 IO23, 48 IO24, 53 IO25, 54 IO26, 55 IO27, 56 IO28, 57 IO29, 58 IO30, 59 IO31, 67 IO32, 68 IO33, 69 IO34, 70 IO35, 71 IO36, 72 IO37, 73 IO38, 78 IO39, 79 IO40, 80 IO41, 81 IO42, 82 IO43, 83 IO44, 84 IO45, 85 IO46, 86 IO47, 90 IO48, 91 IO49, 92 IO50, 93 IO51, 94 IO52, 95 IO53, 96 IO54, 97 IO55, 98 IO56
part C pins: 12 VCC (power)
part D pins: 64 VCC (power)
part E pins: 2 GND (power)
part F pins: 13 GND (power)
part G pins: 25 GND (power)
part H pins: 38 GND (power)
part I pins: 51 GND (power)
part J pins: 63 GND (power)
part K pins: 74 GND (power)
part L pins: 88 GND (power)
part M pins: 1 VCCIO (power)
part N pins: 24 VCCIO (power)
part O pins: 52 VCCIO (power)
part P pins: 75 VCCIO (power)
part Q pins: 10 NC
part R pins: 26 NC
part S pins: 27 NC
part T pins: 49 NC
part U pins: 50 NC
part V pins: 61 NC
part W pins: 76 NC
part X pins: 77 NC
part Y pins: 89 NC
part Z pins: 99 NC
part 27 pins: 100 NC